# Altium integrated library microchip.IntLib: 312 symbols (part 1 of 5)
Pins are listed as number, name and electrical type; pins without a type are passive.

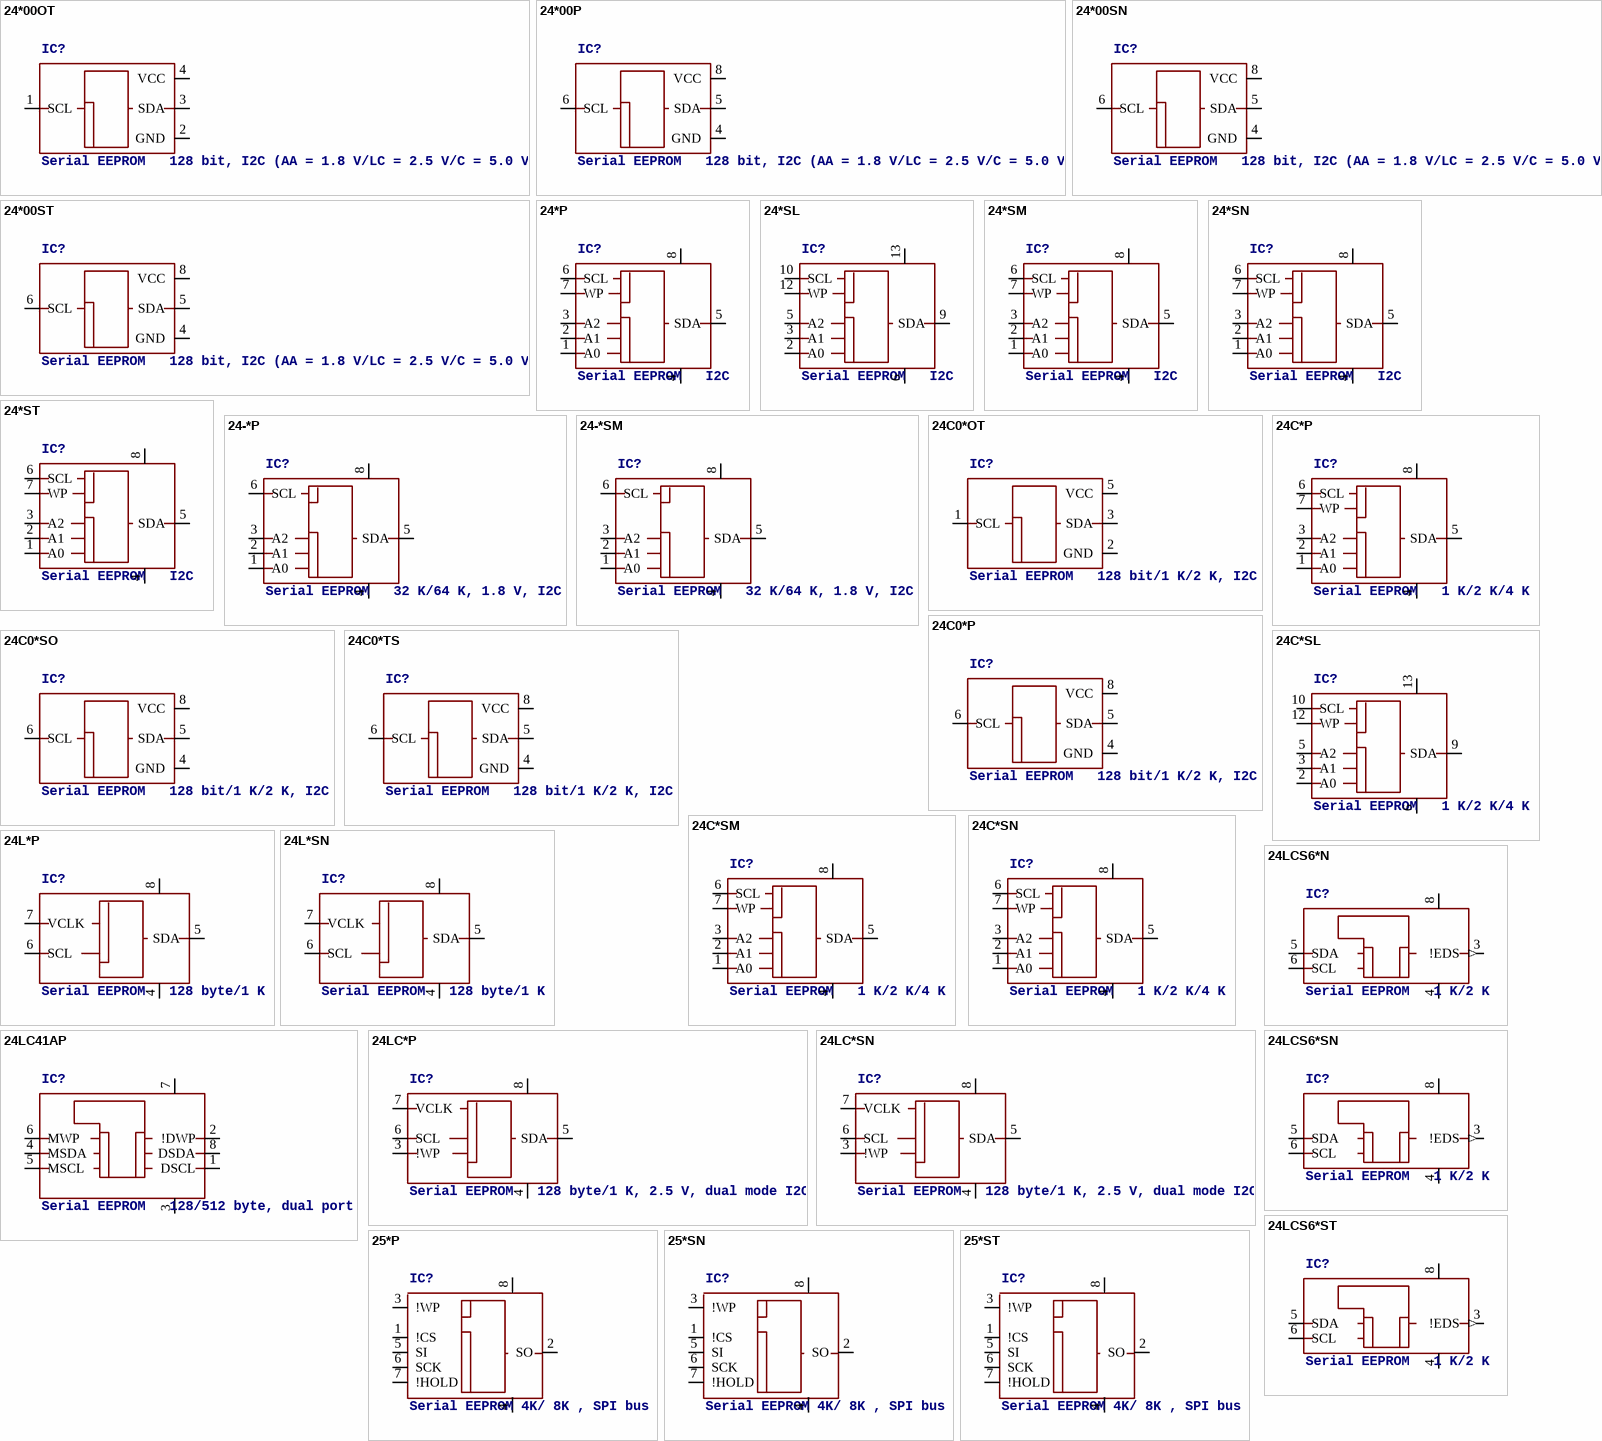
[diagram p0: symbols 24*00OT to 25*ST]

## 24*00OT
designator IC?, comment Serial EEPROM   128 bit, I2C (AA = 1.8 V/LC = 2.5 V/C = 5.0 V)
MPN: 24AA00T-I/OTG; MPN: 24C00T-I/OT; MPN: 24LC00T-I/OT; MF: MICROCHIP; OC_FARNELL: 1331264; OC_NEWARK: 89H3038; OC_FARNELL: 1818713; OC_NEWARK: 92C6937; OC_FARNELL: 9757864; OC_NEWARK: 62K0574
footprint SOT23-5L
pins: 1 SCL, 2 GND (power), 3 SDA, 4 VCC (power)

## 24*00P
designator IC?, comment Serial EEPROM   128 bit, I2C (AA = 1.8 V/LC = 2.5 V/C = 5.0 V)
MPN: 24AA00-I/P; MPN: 24C00/P; MPN: 24LC00/P; MF: MICROCHIP; OC_FARNELL: 1331262; OC_NEWARK: 68K7385; OC_FARNELL: unknown; OC_NEWARK: 96K4058; OC_FARNELL: 9757856; OC_NEWARK: 96K4068
footprint DIL8
pins: 4 GND (power), 5 SDA, 6 SCL, 8 VCC (power)

## 24*00SN
designator IC?, comment Serial EEPROM   128 bit, I2C (AA = 1.8 V/LC = 2.5 V/C = 5.0 V)
MPN: 24AA00-I/SN; MPN: 24C00/SN; MPN: 24LC00/SN; MF: MICROCHIP; OC_FARNELL: 1331263; OC_NEWARK: 92C6779; OC_FARNELL: unknown; OC_NEWARK: 96K4059; OC_FARNELL: 1137303; OC_NEWARK: 69K7667
footprint SO-08
pins: 4 GND (power), 5 SDA, 6 SCL, 8 VCC (power)

## 24*00ST
designator IC?, comment Serial EEPROM   128 bit, I2C (AA = 1.8 V/LC = 2.5 V/C = 5.0 V)
MPN: 24AA00-I/STG; MPN: 24C00-I/ST; MPN: 24LC00-I/ST; MF: MICROCHIP; OC_FARNELL: unknown; OC_NEWARK: 89H3037; OC_NEWARK: 92C6932; OC_NEWARK: 96K4067
footprint TSSOP8
pins: 4 GND (power), 5 SDA, 6 SCL, 8 VCC (power)

## 24*P
designator IC?, comment Serial EEPROM   I2C
MPN: 24AA01-I/P; MPN: 24AA02-I/P; MPN: 24AA04-I/P; MPN: 24AA08-I/P; MPN: 24AA128-I/P; MPN: 24AA16-I/P; MPN: 24AA256-I/P; MPN: 24AA32A-I/P; MPN: 24AA64-I/P; MPN: M24C01-WBN6P; MPN: 24C02C-I/P; MPN: FM24C04A-P; MPN: AT24C08B-PU; MPN: AT24C16B-PU; MPN: AT24C32C-PU; MPN: FM24C64-P; MPN: 24LC01BH-I/P; MPN: 24LC024-I/P; MPN: 24LC025-I/P; MPN: 24LC04B-I/P; MPN: 24LC08B/P; MPN: 24LC128-I/P; MPN: 24LC16B/P; MPN: 24LC256-E/P; MPN: 24LC32A/P; MPN: 24LC64-I/P; MPN: 24LCS52-I/PG; MF: MICROCHIP; MF: RAMTRON INTERNATIONAL CORP; OC_FARNELL: 1331266; OC_NEWARK: 35M0692; OC_FARNELL: 1331271; OC_NEWARK: 95M2072; OC_FARNELL: 1331275; OC_NEWARK: 35M0696; OC_FARNELL: 1331281; OC_NEWARK: 92C6825; OC_FARNELL: unknown; OC_NEWARK: 92C6840; OC_FARNELL: 1331287; OC_NEWARK: 35M0705; OC_FARNELL: 1331294; OC_NEWARK: 92C6872; OC_FARNELL: 1331297; OC_NEWARK: 92C6885; OC_FARNELL: 1331303; OC_NEWARK: 92C6909; OC_FARNELL: 9882782; OC_NEWARK: 24M5067; OC_FARNELL: 1755843; OC_NEWARK: 96K4062; OC_FARNELL: 1094258; OC_NEWARK: 97H6447; OC_FARNELL: 1362644; OC_NEWARK: 50M3317; OC_FARNELL: 1362650; OC_NEWARK: 50M3323; OC_FARNELL: 1362652; OC_NEWARK: 50M3325; OC_FARNELL: 1362657; OC_NEWARK: 97H6452; OC_NEWARK: unknown; OC_FARNELL: 1200025; OC_NEWARK: 77M3542; OC_FARNELL: 1331317; OC_NEWARK: 35M0731; OC_NEWARK: 92C7098; OC_FARNELL: 1196811; OC_NEWARK: 62K0576; OC_FARNELL: 1084245; OC_NEWARK: 96K4073; OC_FARNELL: 9757929; OC_NEWARK: 12C2007; OC_FARNELL: 1200026; OC_NEWARK: 69K7671; OC_FARNELL: 9757970; OC_NEWARK: 92C7169; OC_FARNELL: 1084246; OC_NEWARK: 75K1884; OC_FARNELL: 9758054; OC_NEWARK: 62K0584; OC_NEWARK: 89H3098
footprint DIL8
pins: 1 A0, 2 A1, 3 A2, 4 GND (power), 5 SDA, 6 SCL, 7 WP, 8 VCC (power)

## 24*SL
designator IC?, comment Serial EEPROM   I2C
OC_FARNELL: unknown; OC_NEWARK: unknown
footprint SO-14
pins: 2 A0, 3 A1, 5 A2, 6 GND (power), 9 SDA, 10 SCL, 12 WP, 13 VCC (power)

## 24*SM
designator IC?, comment Serial EEPROM   I2C
MPN: 24AA01-I/SN; MPN: 24AA02-I/SN; MPN: 24AA04-I/SN; MPN: 24AA08-I/SN; MPN: 24AA128-I/MS; MPN: 24AA16-I/SN; MPN: 24AA32A-I/SN; MPN: 24C01C/SN; MPN: 24C02C/SN; MPN: M24C04-WMN6P; MPN: AT24C08BN-SH-B; MPN: IS24C32A-2GLI; MPN: FM24C64-S; MPN: FM24CL04-S; MPN: 24LC08BT-I/SN; MPN: 24LC128-I/SM; MPN: 24LC16B/SN; MPN: 24LC32A/SM; MPN: 24LC64T-I/SN; MF: MICROCHIP; MF: RAMTRON INTERNATIONAL CORP; OC_FARNELL: 1331268; OC_NEWARK: 92C6793; OC_FARNELL: 1331272; OC_NEWARK: 92C6803; OC_FARNELL: 1331276; OC_NEWARK: 92C6814; OC_FARNELL: 1331282; OC_NEWARK: 92C6826; OC_FARNELL: 1331285; OC_NEWARK: 92C6839; OC_FARNELL: 1331289; OC_NEWARK: 96K4056; OC_FARNELL: 1617659; OC_NEWARK: 83C5815; OC_FARNELL: 1362638; OC_NEWARK: 96K4061; OC_FARNELL: 1084339; OC_NEWARK: 96K4065; OC_FARNELL: 9882812; OC_NEWARK: 83K1376; OC_FARNELL: 1362645; OC_NEWARK: 50M3318; OC_FARNELL: 1718129; OC_NEWARK: 43M4588; OC_FARNELL: 9882685; OC_NEWARK: 98H0189; OC_FARNELL: 1607928; OC_NEWARK: 97H6443; OC_FARNELL: 1818714; OC_NEWARK: 92C7127; OC_FARNELL: 9757937; OC_NEWARK: 92C7134; OC_FARNELL: 9757945; OC_NEWARK: 12C2012; OC_FARNELL: 1212670; OC_NEWARK: 96K4080; OC_FARNELL: 9758070; OC_NEWARK: 12C2021
footprint SO-08M
pins: 1 A0, 2 A1, 3 A2, 4 GND (power), 5 SDA, 6 SCL, 7 WP, 8 VCC (power)

## 24*SN
designator IC?, comment Serial EEPROM   I2C
MPN: 24AA01/SN; MPN: 24AA02/SN; MPN: 24AA04/SN; MPN: 24AA08-I/SN; MPN: 24AA128-I/SN; MPN: 24AA16-I/SN; MPN: 24AA256T-I/SM; MPN: 24AA32A-I/SN; MPN: 24AA64-I/SN; MPN: AT24C08BN-SH-B; MPN: AT24C16BN-SH-B; MPN: IS24C32A-2GLI; MPN: FM24CL04-G; MPN: 24LC024/SN; MPN: 24LC025/SN; MPN: 24LC08B/SN; MPN: 24LC128-I/SNG; MPN: 24LC16B/SN; MPN: 24LC256-I/SN; MPN: 24LC32A/SN; MPN: 24LC64-I/SN; MPN: 24LCS52-I/SN; MF: MICROCHIP; MF: RAMTRON INTERNATIONAL CORP; OC_FARNELL: 1331268; OC_NEWARK: 89C9792; OC_FARNELL: 1331272; OC_NEWARK: 89C9793; OC_FARNELL: 1331276; OC_NEWARK: 92C6818; OC_FARNELL: 1579568; OC_NEWARK: 92C6826; OC_FARNELL: unknown; OC_NEWARK: 92C6842; OC_FARNELL: 1331289; OC_NEWARK: 96K4056; OC_FARNELL: 1579570; OC_NEWARK: 08N6838; OC_FARNELL: 1617659; OC_NEWARK: 83C5815; OC_FARNELL: 1331304; OC_NEWARK: 85C2288; OC_FARNELL: 1362645; OC_NEWARK: 50M3318; OC_FARNELL: 1362651; OC_NEWARK: 50M3324; OC_FARNELL: 1224413; OC_NEWARK: 43M4588; OC_FARNELL: 1607928; OC_NEWARK: 10J0444; OC_FARNELL: 1659744; OC_NEWARK: 92C7092; OC_NEWARK: 92C7103; OC_FARNELL: 1212669; OC_NEWARK: 12C2005; OC_FARNELL: 9757937; OC_NEWARK: 30H1511; OC_FARNELL: 9757945; OC_NEWARK: 12C2012; OC_FARNELL: 9757996; OC_NEWARK: 27C9144; OC_FARNELL: 9758003; OC_NEWARK: 33C2976; OC_FARNELL: 9758070; OC_NEWARK: 12C2020; OC_FARNELL: 1816066; OC_NEWARK: 92C7032
footprint SO-08
pins: 1 A0, 2 A1, 3 A2, 4 GND (power), 5 SDA, 6 SCL, 7 WP, 8 VCC (power)

## 24*ST
designator IC?, comment Serial EEPROM   I2C
MPN: 24AA128-I/ST; MPN: 25AA640A-I/ST; MPN: CAT24C64YI-GT3; MPN: 24LC024H-I/ST; MPN: 24LC025-I/ST; MPN: 24LC128-I/ST; MPN: 24LC64X-I/ST; MPN: 24LCS52T/ST; MF: MICROCHIP; OC_FARNELL: unknown; OC_NEWARK: 92C6843; OC_FARNELL: 1818513; OC_NEWARK: 27M1300; OC_FARNELL: 1718133; OC_NEWARK: 08R5418; OC_FARNELL: 1659745; OC_NEWARK: 77M3584; OC_NEWARK: 92C7100; OC_FARNELL: 1296573; OC_NEWARK: 62K0578; OC_FARNELL: 1296582; OC_NEWARK: 96K4081; OC_NEWARK: 92C7040
footprint TSSOP8
pins: 1 A0, 2 A1, 3 A2, 4 GND (power), 5 SDA, 6 SCL, 7 WP, 8 VCC (power)

## 24-*P
designator IC?, comment Serial EEPROM   32 K/64 K, 1.8 V, I2C
MPN: 24AA65/P; MPN: AT24C32C-PU; MPN: 24C65/P; MPN: 24LC32A/P; MPN: 24LC65/P; MF: MICROCHIP; OC_FARNELL: 1331306; OC_NEWARK: 35M0721; OC_FARNELL: 1362652; OC_NEWARK: 50M3325; OC_FARNELL: 9757821; OC_NEWARK: 89C9798; OC_FARNELL: unknown; OC_NEWARK: unknown; OC_FARNELL: 1084246; OC_NEWARK: 75K1884; OC_FARNELL: 9758089; OC_NEWARK: 88K1357
footprint DIL8
pins: 1 A0, 2 A1, 3 A2, 4 GND (power), 5 SDA, 6 SCL, 8 VCC (power)

## 24-*SM
designator IC?, comment Serial EEPROM   32 K/64 K, 1.8 V, I2C
MPN: 24AA65/SM; MPN: M24C32-WMN6P; MPN: 24C65/SM; MPN: 24LC32A/SM; MPN: 24LC65/SM; MF: MICROCHIP; OC_FARNELL: 1331307; OC_NEWARK: 92C6926; OC_FARNELL: 1362654; OC_NEWARK: 56P9110; OC_FARNELL: 1467721; OC_NEWARK: 96K4066; OC_FARNELL: unknown; OC_NEWARK: unknown; OC_FARNELL: 1212670; OC_NEWARK: 96K4080; OC_FARNELL: 9758097; OC_NEWARK: 96K4082
footprint SO-08M
pins: 1 A0, 2 A1, 3 A2, 4 GND (power), 5 SDA, 6 SCL, 8 VCC (power)

## 24C0*OT
designator IC?, comment Serial EEPROM   128 bit/1 K/2 K, I2C
MPN: 24C00T-I/OT; MF: MICROCHIP; OC_FARNELL: 1818713; OC_NEWARK: 92C6937
footprint SOT23-5L
pins: 1 SCL, 2 GND (power), 3 SDA, 5 VCC (power)

## 24C0*P
designator IC?, comment Serial EEPROM   128 bit/1 K/2 K, I2C
MPN: 24C00/P; MPN: AT24C01B-PU; MPN: AT24C02B-PU; MF: MICROCHIP; OC_FARNELL: unknown; OC_NEWARK: 96K4058; OC_FARNELL: 1362637; OC_NEWARK: 50M3312; OC_FARNELL: 1362639; OC_NEWARK: 50M3314
footprint DIL8
pins: 4 GND (power), 5 SDA, 6 SCL, 8 VCC (power)

## 24C0*SO
designator IC?, comment Serial EEPROM   128 bit/1 K/2 K, I2C
MPN: 24C00/SN; MPN: AT24C01BN-SH-B; MPN: IS24C02B-2GLI; MF: MICROCHIP; OC_FARNELL: 1847799; OC_NEWARK: 96K4059; OC_FARNELL: 1362638; OC_NEWARK: 50M3313; OC_FARNELL: 1455010; OC_NEWARK: 43M4517
footprint SO-08W
pins: 4 GND (power), 5 SDA, 6 SCL, 8 VCC (power)

## 24C0*TS
designator IC?, comment Serial EEPROM   128 bit/1 K/2 K, I2C
MPN: 24C00T-E/ST; MF: MICROCHIP; OC_FARNELL: unknown; OC_NEWARK: 68H9684
footprint TSSOP8
pins: 4 GND (power), 5 SDA, 6 SCL, 8 VCC (power)

## 24C*P
designator IC?, comment Serial EEPROM   1 K/2 K/4 K
MPN: 24C01C-I/P; MPN: M24C01-WBN6P; MPN: 24C01C/P; MPN: M24C02-WBN6P; MPN: 24C02C/P; MPN: M24C04-WBN6P; MPN: AT24C04B-PU; MPN: CAT24C04LI-G; MF: MICROCHIP; MF: Arrow Electronics; OC_FARNELL: 1847800; OC_NEWARK: 92C6948; OC_FARNELL: 9882782; OC_NEWARK: 93K7306; OC_FARNELL: 3662901; OC_NEWARK: 96K4060; OC_FARNELL: unknown; OC_NEWARK: unknown; OC_FARNELL: 1094256; OC_NEWARK: 11M0888; OC_FARNELL: 1296567; OC_NEWARK: 96K4064; OC_FARNELL: 1094258; OC_NEWARK: 02M5802; OC_FARNELL: 1362642; OC_NEWARK: 50M3315; OC_FARNELL: 1718374; OC_NEWARK: 73P4460
footprint DIL8
pins: 1 A0, 2 A1, 3 A2, 4 GND (power), 5 SDA, 6 SCL, 7 WP, 8 VCC (power)

## 24C*SL
designator IC?, comment Serial EEPROM   1 K/2 K/4 K
OC_FARNELL: unknown; OC_NEWARK: unknown
footprint SO-14
pins: 2 A0, 3 A1, 5 A2, 6 GND (power), 9 SDA, 10 SCL, 12 WP, 13 VCC (power)

## 24C*SM
designator IC?, comment Serial EEPROM   1 K/2 K/4 K
MPN: M24C01-WMN6P; MPN: AT24C01BN-SH-B; MPN: 24C02C-I/SN; MPN: M24C02-WMN6P; MPN: CAT24C04WI-G; MPN: AT24C04BN-SH-B; MF: MICROCHIP; OC_FARNELL: 9882790; OC_NEWARK: 24M5068; OC_FARNELL: 1362638; OC_NEWARK: 50M3313; OC_FARNELL: 1084339; OC_NEWARK: 96K4063; OC_FARNELL: 9882804; OC_NEWARK: 10M9771; OC_FARNELL: 1631136; OC_NEWARK: 06R0507; OC_FARNELL: 1362643; OC_NEWARK: 50M3316
footprint SO-08M
pins: 1 A0, 2 A1, 3 A2, 4 GND (power), 5 SDA, 6 SCL, 7 WP, 8 VCC (power)

## 24C*SN
designator IC?, comment Serial EEPROM   1 K/2 K/4 K
MPN: CAT24C01WI-GT3; MPN: AT24C01BN-SH-B; MPN: 24C01C/SN; MPN: 24C02C/SN; MPN: M24C04-WMN6P; MF: MICROCHIP; OC_FARNELL: 1718117; OC_NEWARK: 06R0487; OC_FARNELL: 1362638; OC_NEWARK: 50M3313; OC_FARNELL: unknown; OC_NEWARK: 96K4061; OC_NEWARK: unknown; OC_FARNELL: 1607552; OC_NEWARK: 96K4065; OC_FARNELL: 9882812; OC_NEWARK: 83K1376
footprint SO-08
pins: 1 A0, 2 A1, 3 A2, 4 GND (power), 5 SDA, 6 SCL, 7 WP, 8 VCC (power)

## 24L*P
designator IC?, comment Serial EEPROM   128 byte/1 K
MPN: 24LC21/P; MPN: 24LC21A-I/P; MF: MICROCHIP; OC_FARNELL: 1818716; OC_NEWARK: 92C7157; OC_FARNELL: unknown; OC_NEWARK: 92C7160
footprint DIL8
pins: 4 GND (power), 5 SDA, 6 SCL, 7 VCLK, 8 VCC (power)

## 24L*SN
designator IC?, comment Serial EEPROM   128 byte/1 K
MPN: 24LC21/SN; MPN: 24LC21A/SN; MF: MICROCHIP; OC_FARNELL: 1816067; OC_NEWARK: 92C7159; OC_FARNELL: unknown; OC_NEWARK: 89C9809
footprint SO-08
pins: 4 GND (power), 5 SDA, 6 SCL, 7 VCLK, 8 VCC (power)

## 24LC41AP
designator IC?, comment Serial EEPROM   128/512 byte, dual port
OC_FARNELL: unknown; OC_NEWARK: unknown
footprint DIL8
pins: 1 DSCL, 2 !DWP, 3 GND (power), 4 MSDA, 5 MSCL, 6 MWP, 7 VCC (power), 8 DSDA

## 24LC*P
designator IC?, comment Serial EEPROM   128 byte/1 K, 2.5 V, dual mode I2C
MPN: 24LCS21A/P; MF: MICROCHIP; OC_FARNELL: unknown; OC_NEWARK: 92C7023
footprint DIL8
pins: 3 !WP, 4 GND (power), 5 SDA, 6 SCL, 7 VCLK, 8 VCC (power)

## 24LC*SN
designator IC?, comment Serial EEPROM   128 byte/1 K, 2.5 V, dual mode I2C
MPN: 24LCS21A/SN; MF: MICROCHIP; OC_FARNELL: 1847803; OC_NEWARK: 92C7025
footprint SO-08
pins: 3 !WP, 4 GND (power), 5 SDA, 6 SCL, 7 VCLK, 8 VCC (power)

## 24LCS6*N
designator IC?, comment Serial EEPROM   1 K/2 K
OC_FARNELL: unknown; OC_NEWARK: unknown
footprint DIL8
pins: 3 !EDS (out), 4 GND (power), 5 SDA, 6 SCL, 8 VCC (power)

## 24LCS6*SN
designator IC?, comment Serial EEPROM   1 K/2 K
OC_FARNELL: unknown; OC_NEWARK: unknown
footprint SO-08
pins: 3 !EDS (out), 4 GND (power), 5 SDA, 6 SCL, 8 VCC (power)

## 24LCS6*ST
designator IC?, comment Serial EEPROM   1 K/2 K
OC_FARNELL: unknown; OC_NEWARK: unknown
footprint TSSOP8
pins: 3 !EDS (out), 4 GND (power), 5 SDA, 6 SCL, 8 VCC (power)

## 25*P
designator IC?, comment Serial EEPROM 4K/ 8K , SPI bus
MPN: 25AA040-I/P; MPN: 25AA080/P; MPN: 25C040/P; MPN: 25C080-I/P; MPN: 25LC040/P; MPN: 25LC080/P; MF: MICROCHIP; OC_FARNELL: 1331347; OC_NEWARK: 92C7334; OC_FARNELL: 1331352; OC_NEWARK: 92C7349; OC_FARNELL: 1607554; OC_NEWARK: 96K4084; OC_FARNELL: 1816073; OC_NEWARK: 92C7398; OC_FARNELL: 9758100; OC_NEWARK: 96K4091; OC_FARNELL: 1556143; OC_NEWARK: 92C7440
footprint DIL8
pins: 1 !CS, 2 SO, 3 !WP, 4 GND (power), 5 SI, 6 SCK, 7 !HOLD, 8 VCC (power)

## 25*SN
designator IC?, comment Serial EEPROM 4K/ 8K , SPI bus
MPN: 25AA080/SN; MPN: 25C080/SN; MPN: 25LC080/SN; MF: MICROCHIP; OC_FARNELL: 1816072; OC_NEWARK: 92C7351; OC_FARNELL: unknown; OC_NEWARK: 96K4086; OC_FARNELL: 1137302; OC_NEWARK: 96K4092
footprint SO-08
pins: 1 !CS, 2 SO, 3 !WP, 4 GND (power), 5 SI, 6 SCK, 7 !HOLD, 8 VCC (power)

## 25*ST
designator IC?, comment Serial EEPROM 4K/ 8K , SPI bus
MPN: 25AA040A-I/MS; MPN: 25C040T/SN; MPN: 25LC040A-I/ST; MF: MICROCHIP; OC_FARNELL: 1331345; OC_NEWARK: 35M0801; OC_FARNELL: unknown; OC_NEWARK: 30C5312; OC_FARNELL: 1815998; OC_NEWARK: 72J3684
footprint TSSOP8
pins: 1 !CS, 2 SO, 3 !WP, 4 GND (power), 5 SI, 6 SCK, 7 !HOLD, 8 VCC (power)

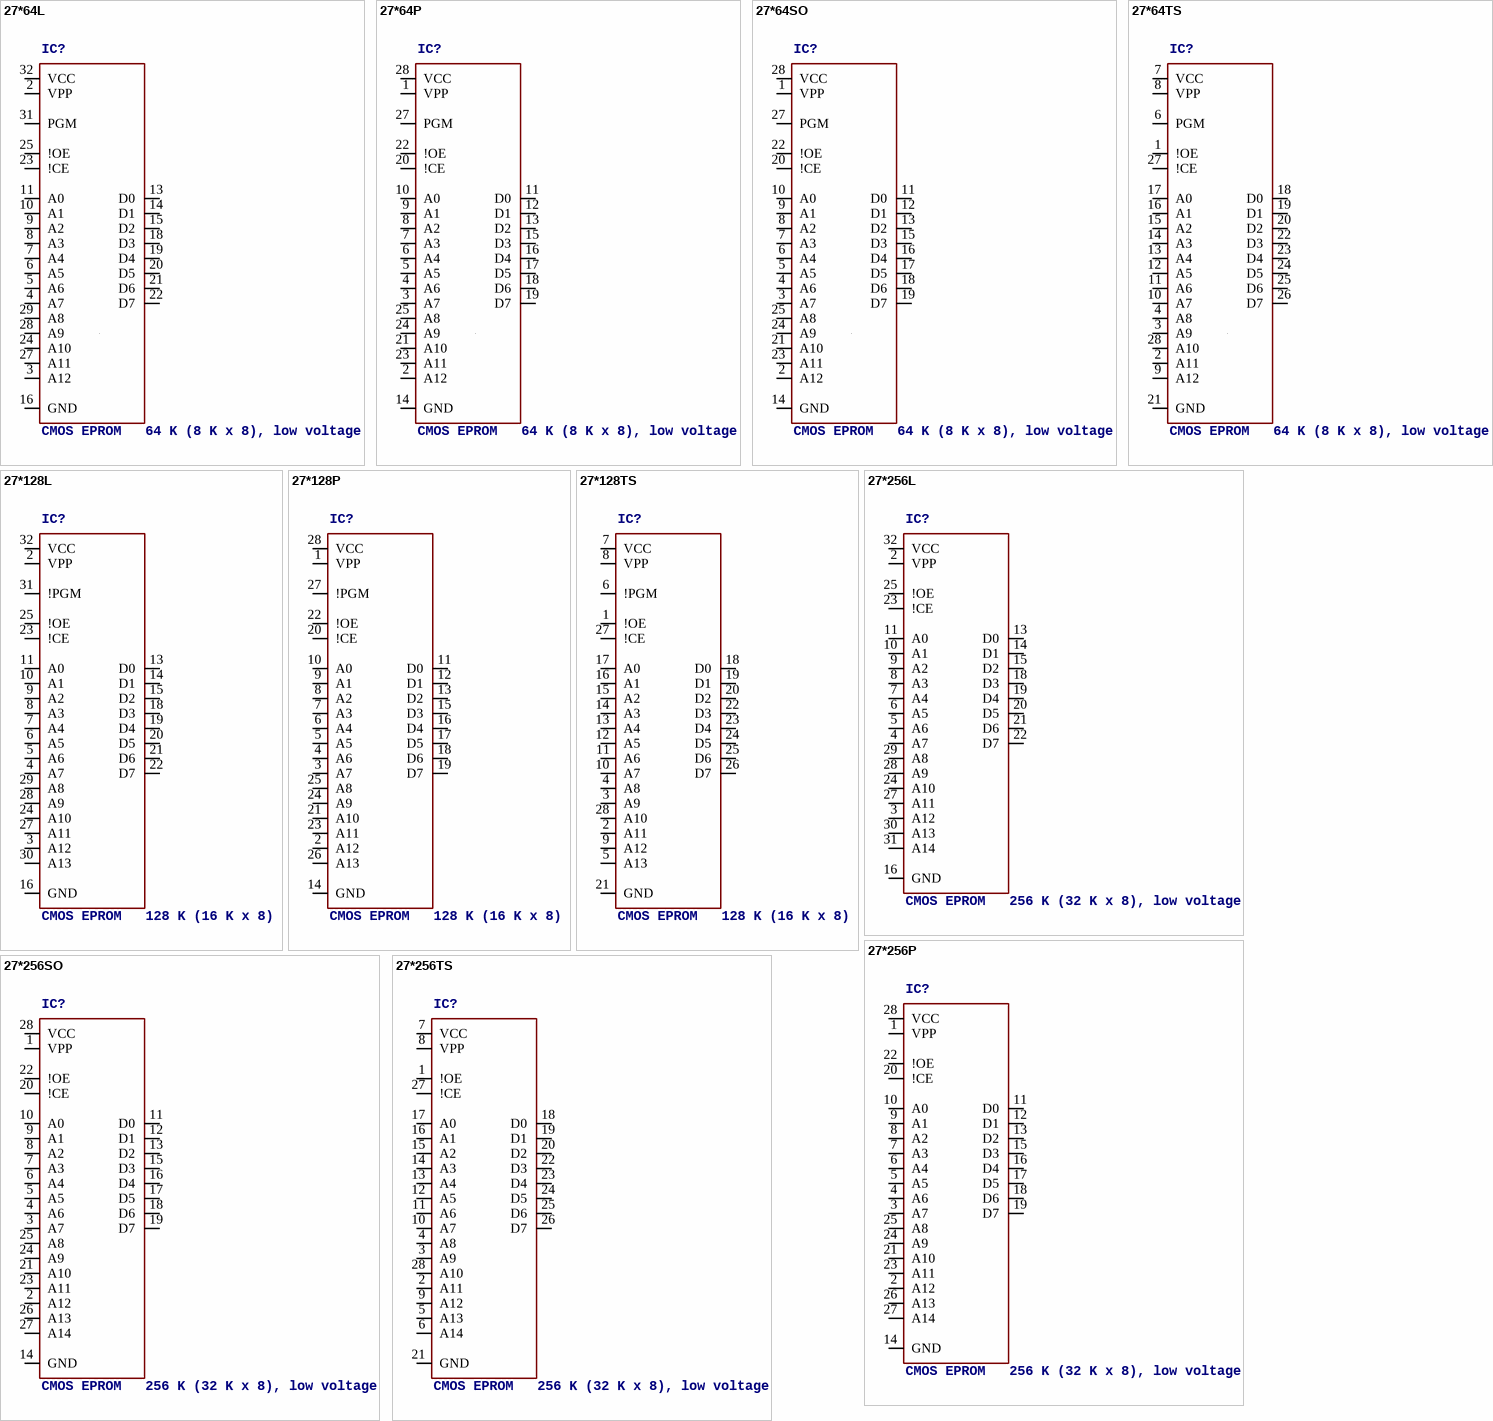
[diagram p1: symbols 27*64L to 27*256TS]

## 27*64L
designator IC?, comment CMOS EPROM   64 K (8 K x 8), low voltage
OC_FARNELL: unknown; OC_NEWARK: unknown
footprint PLCC-32
pins: 1 NC, 2 VPP, 3 A12, 4 A7, 5 A6, 6 A5, 7 A4, 8 A3, 9 A2, 10 A1, 11 A0, 13 D0 (hiz), 14 D1 (hiz), 15 D2 (hiz), 16 GND (power), 18 D3 (hiz), 19 D4 (hiz), 20 D5 (hiz), 21 D6 (hiz), 22 D7 (hiz), 23 !CE, 24 A10, 25 !OE, 27 A11, 28 A9, 29 A8, 31 PGM, 32 VCC (power)

## 27*64P
designator IC?, comment CMOS EPROM   64 K (8 K x 8), low voltage
MPN: M27C64A-10F1; MF: Arrow Electronics; OC_FARNELL: 1094265; OC_NEWARK: 93K7339; OC_FARNELL: unknown; OC_NEWARK: unknown
footprint DIL28-6
pins: 1 VPP, 2 A12, 3 A7, 4 A6, 5 A5, 6 A4, 7 A3, 8 A2, 9 A1, 10 A0, 11 D0 (hiz), 12 D1 (hiz), 13 D2 (hiz), 14 GND (power), 15 D3 (hiz), 16 D4 (hiz), 17 D5 (hiz), 18 D6 (hiz), 19 D7 (hiz), 20 !CE, 21 A10, 22 !OE, 23 A11, 24 A9, 25 A8, 26 NC, 27 PGM, 28 VCC (power)

## 27*64SO
designator IC?, comment CMOS EPROM   64 K (8 K x 8), low voltage
OC_FARNELL: unknown; OC_NEWARK: unknown
footprint SO28W
pins: 1 VPP, 2 A12, 3 A7, 4 A6, 5 A5, 6 A4, 7 A3, 8 A2, 9 A1, 10 A0, 11 D0 (hiz), 12 D1 (hiz), 13 D2 (hiz), 14 GND (power), 15 D3 (hiz), 16 D4 (hiz), 17 D5 (hiz), 18 D6 (hiz), 19 D7 (hiz), 20 !CE, 21 A10, 22 !OE, 23 A11, 24 A9, 25 A8, 26 NC, 27 PGM, 28 VCC (power)

## 27*64TS
designator IC?, comment CMOS EPROM   64 K (8 K x 8), low voltage
OC_FARNELL: unknown; OC_NEWARK: unknown
footprint TSOP28
pins: 1 !OE, 2 A11, 3 A9, 4 A8, 5 NC, 6 PGM, 7 VCC (power), 8 VPP, 9 A12, 10 A7, 11 A6, 12 A5, 13 A4, 14 A3, 15 A2, 16 A1, 17 A0, 18 D0 (hiz), 19 D1 (hiz), 20 D2 (hiz), 21 GND (power), 22 D3 (hiz), 23 D4 (hiz), 24 D5 (hiz), 25 D6 (hiz), 26 D7 (hiz), 27 !CE, 28 A10

## 27*128L
designator IC?, comment CMOS EPROM   128 K (16 K x 8)
OC_FARNELL: unknown; OC_NEWARK: unknown
footprint PLCC-32
pins: 2 VPP, 3 A12, 4 A7, 5 A6, 6 A5, 7 A4, 8 A3, 9 A2, 10 A1, 11 A0, 13 D0 (hiz), 14 D1 (hiz), 15 D2 (hiz), 16 GND (power), 18 D3 (hiz), 19 D4 (hiz), 20 D5 (hiz), 21 D6 (hiz), 22 D7 (hiz), 23 !CE, 24 A10, 25 !OE, 27 A11, 28 A9, 29 A8, 30 A13, 31 !PGM, 32 VCC (power)

## 27*128P
designator IC?, comment CMOS EPROM   128 K (16 K x 8)
OC_FARNELL: unknown; OC_NEWARK: unknown
footprint DIL28-6
pins: 1 VPP, 2 A12, 3 A7, 4 A6, 5 A5, 6 A4, 7 A3, 8 A2, 9 A1, 10 A0, 11 D0 (hiz), 12 D1 (hiz), 13 D2 (hiz), 14 GND (power), 15 D3 (hiz), 16 D4 (hiz), 17 D5 (hiz), 18 D6 (hiz), 19 D7 (hiz), 20 !CE, 21 A10, 22 !OE, 23 A11, 24 A9, 25 A8, 26 A13, 27 !PGM, 28 VCC (power)

## 27*128TS
designator IC?, comment CMOS EPROM   128 K (16 K x 8)
OC_FARNELL: unknown; OC_NEWARK: unknown
footprint TSOP28
pins: 1 !OE, 2 A11, 3 A9, 4 A8, 5 A13, 6 !PGM, 7 VCC (power), 8 VPP, 9 A12, 10 A7, 11 A6, 12 A5, 13 A4, 14 A3, 15 A2, 16 A1, 17 A0, 18 D0 (hiz), 19 D1 (hiz), 20 D2 (hiz), 21 GND (power), 22 D3 (hiz), 23 D4 (hiz), 24 D5 (hiz), 25 D6 (hiz), 26 D7 (hiz), 27 !CE, 28 A10

## 27*256L
designator IC?, comment CMOS EPROM   256 K (32 K x 8), low voltage
MPN: AT27C256R-70JU; OC_FARNELL: 1095779; OC_NEWARK: 96K6554; OC_FARNELL: unknown; OC_NEWARK: unknown
footprint PLCC-32
pins: 2 VPP, 3 A12, 4 A7, 5 A6, 6 A5, 7 A4, 8 A3, 9 A2, 10 A1, 11 A0, 13 D0 (hiz), 14 D1 (hiz), 15 D2 (hiz), 16 GND (power), 18 D3 (hiz), 19 D4 (hiz), 20 D5 (hiz), 21 D6 (hiz), 22 D7 (hiz), 23 !CE, 24 A10, 25 !OE, 27 A11, 28 A9, 29 A8, 30 A13, 31 A14, 32 VCC (power)

## 27*256P
designator IC?, comment CMOS EPROM   256 K (32 K x 8), low voltage
MPN: M27C256B15F1; MF: Arrow Electronics; OC_FARNELL: 1125431; OC_NEWARK: 93K7335; OC_FARNELL: unknown; OC_NEWARK: unknown
footprint DIL28-6
pins: 1 VPP, 2 A12, 3 A7, 4 A6, 5 A5, 6 A4, 7 A3, 8 A2, 9 A1, 10 A0, 11 D0 (hiz), 12 D1 (hiz), 13 D2 (hiz), 14 GND (power), 15 D3 (hiz), 16 D4 (hiz), 17 D5 (hiz), 18 D6 (hiz), 19 D7 (hiz), 20 !CE, 21 A10, 22 !OE, 23 A11, 24 A9, 25 A8, 26 A13, 27 A14, 28 VCC (power)

## 27*256SO
designator IC?, comment CMOS EPROM   256 K (32 K x 8), low voltage
OC_FARNELL: unknown; OC_NEWARK: unknown
footprint SO28W
pins: 1 VPP, 2 A12, 3 A7, 4 A6, 5 A5, 6 A4, 7 A3, 8 A2, 9 A1, 10 A0, 11 D0 (hiz), 12 D1 (hiz), 13 D2 (hiz), 14 GND (power), 15 D3 (hiz), 16 D4 (hiz), 17 D5 (hiz), 18 D6 (hiz), 19 D7 (hiz), 20 !CE, 21 A10, 22 !OE, 23 A11, 24 A9, 25 A8, 26 A13, 27 A14, 28 VCC (power)

## 27*256TS
designator IC?, comment CMOS EPROM   256 K (32 K x 8), low voltage
OC_FARNELL: unknown; OC_NEWARK: unknown
footprint TSOP28
pins: 1 !OE, 2 A11, 3 A9, 4 A8, 5 A13, 6 A14, 7 VCC (power), 8 VPP, 9 A12, 10 A7, 11 A6, 12 A5, 13 A4, 14 A3, 15 A2, 16 A1, 17 A0, 18 D0 (hiz), 19 D1 (hiz), 20 D2 (hiz), 21 GND (power), 22 D3 (hiz), 23 D4 (hiz), 24 D5 (hiz), 25 D6 (hiz), 26 D7 (hiz), 27 !CE, 28 A10

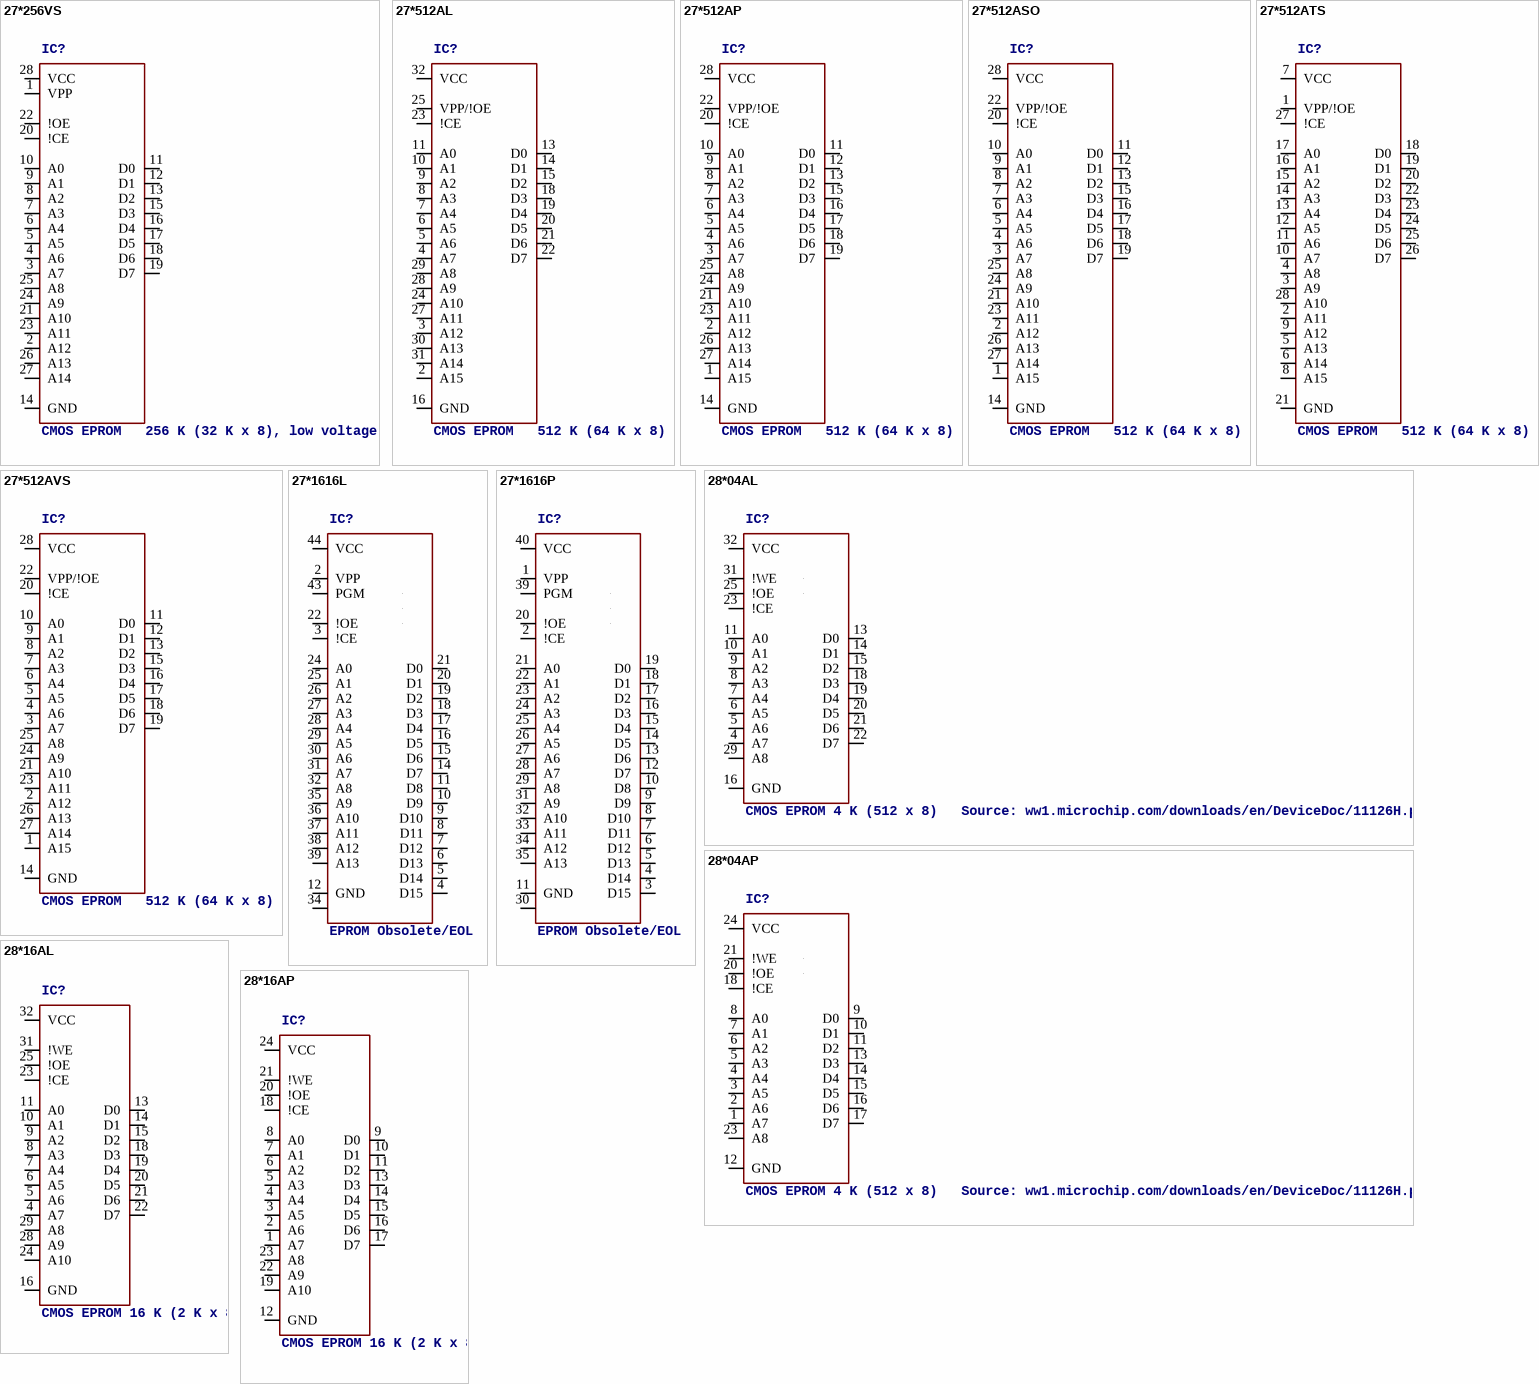
[diagram p2: symbols 27*256VS to 28*16AP]

## 27*256VS
designator IC?, comment CMOS EPROM   256 K (32 K x 8), low voltage
OC_FARNELL: unknown; OC_NEWARK: unknown
footprint VSOP28-8X13
pins: 1 VPP, 2 A12, 3 A7, 4 A6, 5 A5, 6 A4, 7 A3, 8 A2, 9 A1, 10 A0, 11 D0 (hiz), 12 D1 (hiz), 13 D2 (hiz), 14 GND (power), 15 D3 (hiz), 16 D4 (hiz), 17 D5 (hiz), 18 D6 (hiz), 19 D7 (hiz), 20 !CE, 21 A10, 22 !OE, 23 A11, 24 A9, 25 A8, 26 A13, 27 A14, 28 VCC (power)

## 27*512AL
designator IC?, comment CMOS EPROM   512 K (64 K x 8)
MPN: M27C512-90C1; OC_FARNELL: 1218315; OC_NEWARK: 24M5090
footprint PLCC-32
pins: 2 A15, 3 A12, 4 A7, 5 A6, 6 A5, 7 A4, 8 A3, 9 A2, 10 A1, 11 A0, 13 D0 (hiz), 14 D1 (hiz), 15 D2 (hiz), 16 GND (power), 18 D3 (hiz), 19 D4 (hiz), 20 D5 (hiz), 21 D6 (hiz), 22 D7 (hiz), 23 !CE, 24 A10, 25 VPP/!OE, 27 A11, 28 A9, 29 A8, 30 A13, 31 A14, 32 VCC (power)

## 27*512AP
designator IC?, comment CMOS EPROM   512 K (64 K x 8)
MPN: M27C512-90B6; OC_FARNELL: 1642690; OC_NEWARK: 20M6389
footprint DIL28-6
pins: 1 A15, 2 A12, 3 A7, 4 A6, 5 A5, 6 A4, 7 A3, 8 A2, 9 A1, 10 A0, 11 D0 (hiz), 12 D1 (hiz), 13 D2 (hiz), 14 GND (power), 15 D3 (hiz), 16 D4 (hiz), 17 D5 (hiz), 18 D6 (hiz), 19 D7 (hiz), 20 !CE, 21 A10, 22 VPP/!OE, 23 A11, 24 A9, 25 A8, 26 A13, 27 A14, 28 VCC (power)

## 27*512ASO
designator IC?, comment CMOS EPROM   512 K (64 K x 8)
OC_FARNELL: unknown; OC_NEWARK: unknown
footprint SO28W
pins: 1 A15, 2 A12, 3 A7, 4 A6, 5 A5, 6 A4, 7 A3, 8 A2, 9 A1, 10 A0, 11 D0 (hiz), 12 D1 (hiz), 13 D2 (hiz), 14 GND (power), 15 D3 (hiz), 16 D4 (hiz), 17 D5 (hiz), 18 D6 (hiz), 19 D7 (hiz), 20 !CE, 21 A10, 22 VPP/!OE, 23 A11, 24 A9, 25 A8, 26 A13, 27 A14, 28 VCC (power)

## 27*512ATS
designator IC?, comment CMOS EPROM   512 K (64 K x 8)
OC_FARNELL: unknown; OC_NEWARK: unknown
footprint TSOP28
pins: 1 VPP/!OE, 2 A11, 3 A9, 4 A8, 5 A13, 6 A14, 7 VCC (power), 8 A15, 9 A12, 10 A7, 11 A6, 12 A5, 13 A4, 14 A3, 15 A2, 16 A1, 17 A0, 18 D0 (hiz), 19 D1 (hiz), 20 D2 (hiz), 21 GND (power), 22 D3 (hiz), 23 D4 (hiz), 24 D5 (hiz), 25 D6 (hiz), 26 D7 (hiz), 27 !CE, 28 A10

## 27*512AVS
designator IC?, comment CMOS EPROM   512 K (64 K x 8)
OC_FARNELL: unknown; OC_NEWARK: unknown
footprint VSOP28-8X13
pins: 1 A15, 2 A12, 3 A7, 4 A6, 5 A5, 6 A4, 7 A3, 8 A2, 9 A1, 10 A0, 11 D0 (hiz), 12 D1 (hiz), 13 D2 (hiz), 14 GND (power), 15 D3 (hiz), 16 D4 (hiz), 17 D5 (hiz), 18 D6 (hiz), 19 D7 (hiz), 20 !CE, 21 A10, 22 VPP/!OE, 23 A11, 24 A9, 25 A8, 26 A13, 27 A14, 28 VCC (power)

## 27*1616L
designator IC?, comment EPROM Obsolete/EOL
OC_FARNELL: unknown; OC_NEWARK: unknown
footprint LCC44
pins: 2 VPP, 3 !CE, 4 D15 (hiz), 5 D14 (hiz), 6 D13 (hiz), 7 D12 (hiz), 8 D11 (hiz), 9 D10 (hiz), 10 D9 (hiz), 11 D8 (hiz), 12 GND (power), 13 NU36, 14 D7 (hiz), 15 D6 (hiz), 16 D5 (hiz), 17 D4 (hiz), 18 D3 (hiz), 19 D2 (hiz), 20 D1 (hiz), 21 D0 (hiz), 22 !OE, 23 NU37, 24 A0, 25 A1, 26 A2, 27 A3, 28 A4, 29 A5, 30 A6, 31 A7, 32 A8, 33 NU38, 34 GND@1 (power), 35 A9, 36 A10, 37 A11, 38 A12, 39 A13, 43 PGM, 44 VCC (power)

## 27*1616P
designator IC?, comment EPROM Obsolete/EOL
OC_FARNELL: unknown; OC_NEWARK: unknown
footprint DIL40
pins: 1 VPP, 2 !CE, 3 D15 (hiz), 4 D14 (hiz), 5 D13 (hiz), 6 D12 (hiz), 7 D11 (hiz), 8 D10 (hiz), 9 D9 (hiz), 10 D8 (hiz), 11 GND (power), 12 D7 (hiz), 13 D6 (hiz), 14 D5 (hiz), 15 D4 (hiz), 16 D3 (hiz), 17 D2 (hiz), 18 D1 (hiz), 19 D0 (hiz), 20 !OE, 21 A0, 22 A1, 23 A2, 24 A3, 25 A4, 26 A5, 27 A6, 28 A7, 29 A8, 30 GND@1 (power), 31 A9, 32 A10, 33 A11, 34 A12, 35 A13, 36 NU36, 37 NU37, 38 NU38, 39 PGM, 40 VCC (power)

## 28*04AL
designator IC?, comment CMOS EPROM 4 K (512 x 8)   Source: ww1.microchip.com/downloads/en/DeviceDoc/11126H.pdf
OC_FARNELL: unknown; OC_NEWARK: unknown
footprint PLCC-32
pins: 1 NC19, 4 A7, 5 A6, 6 A5, 7 A4, 8 A3, 9 A2, 10 A1, 11 A0, 13 D0 (hiz), 14 D1 (hiz), 15 D2 (hiz), 16 GND (power), 17 NC22, 18 D3 (hiz), 19 D4 (hiz), 20 D5 (hiz), 21 D6 (hiz), 22 D7 (hiz), 23 !CE, 25 !OE, 29 A8, 31 !WE, 32 VCC (power)

## 28*04AP
designator IC?, comment CMOS EPROM 4 K (512 x 8)   Source: ww1.microchip.com/downloads/en/DeviceDoc/11126H.pdf
OC_FARNELL: unknown; OC_NEWARK: unknown
footprint DIL24-6
pins: 1 A7, 2 A6, 3 A5, 4 A4, 5 A3, 6 A2, 7 A1, 8 A0, 9 D0 (hiz), 10 D1 (hiz), 11 D2 (hiz), 12 GND (power), 13 D3 (hiz), 14 D4 (hiz), 15 D5 (hiz), 16 D6 (hiz), 17 D7 (hiz), 18 !CE, 19 NC19, 20 !OE, 21 !WE, 22 NC22, 23 A8, 24 VCC (power)

## 28*16AL
designator IC?, comment CMOS EPROM 16 K (2 K x 8)   Source: ww1.microchip.com/downloads/en/DeviceDoc/11125J.pdf
MPN: CAT28C16AGI-12; OC_FARNELL: 1718288; OC_NEWARK: 06R0639
footprint PLCC-32
pins: 4 A7, 5 A6, 6 A5, 7 A4, 8 A3, 9 A2, 10 A1, 11 A0, 13 D0 (hiz), 14 D1 (hiz), 15 D2 (hiz), 16 GND (power), 18 D3 (hiz), 19 D4 (hiz), 20 D5 (hiz), 21 D6 (hiz), 22 D7 (hiz), 23 !CE, 24 A10, 25 !OE, 28 A9, 29 A8, 31 !WE, 32 VCC (power)

## 28*16AP
designator IC?, comment CMOS EPROM 16 K (2 K x 8)   Source: ww1.microchip.com/downloads/en/DeviceDoc/11125J.pdf
MPN: CAT28C16ALI-12; OC_FARNELL: 1718292; OC_NEWARK: 06R0648
footprint DIL24-6
pins: 1 A7, 2 A6, 3 A5, 4 A4, 5 A3, 6 A2, 7 A1, 8 A0, 9 D0 (hiz), 10 D1 (hiz), 11 D2 (hiz), 12 GND (power), 13 D3 (hiz), 14 D4 (hiz), 15 D5 (hiz), 16 D6 (hiz), 17 D7 (hiz), 18 !CE, 19 A10, 20 !OE, 21 !WE, 22 A9, 23 A8, 24 VCC (power)

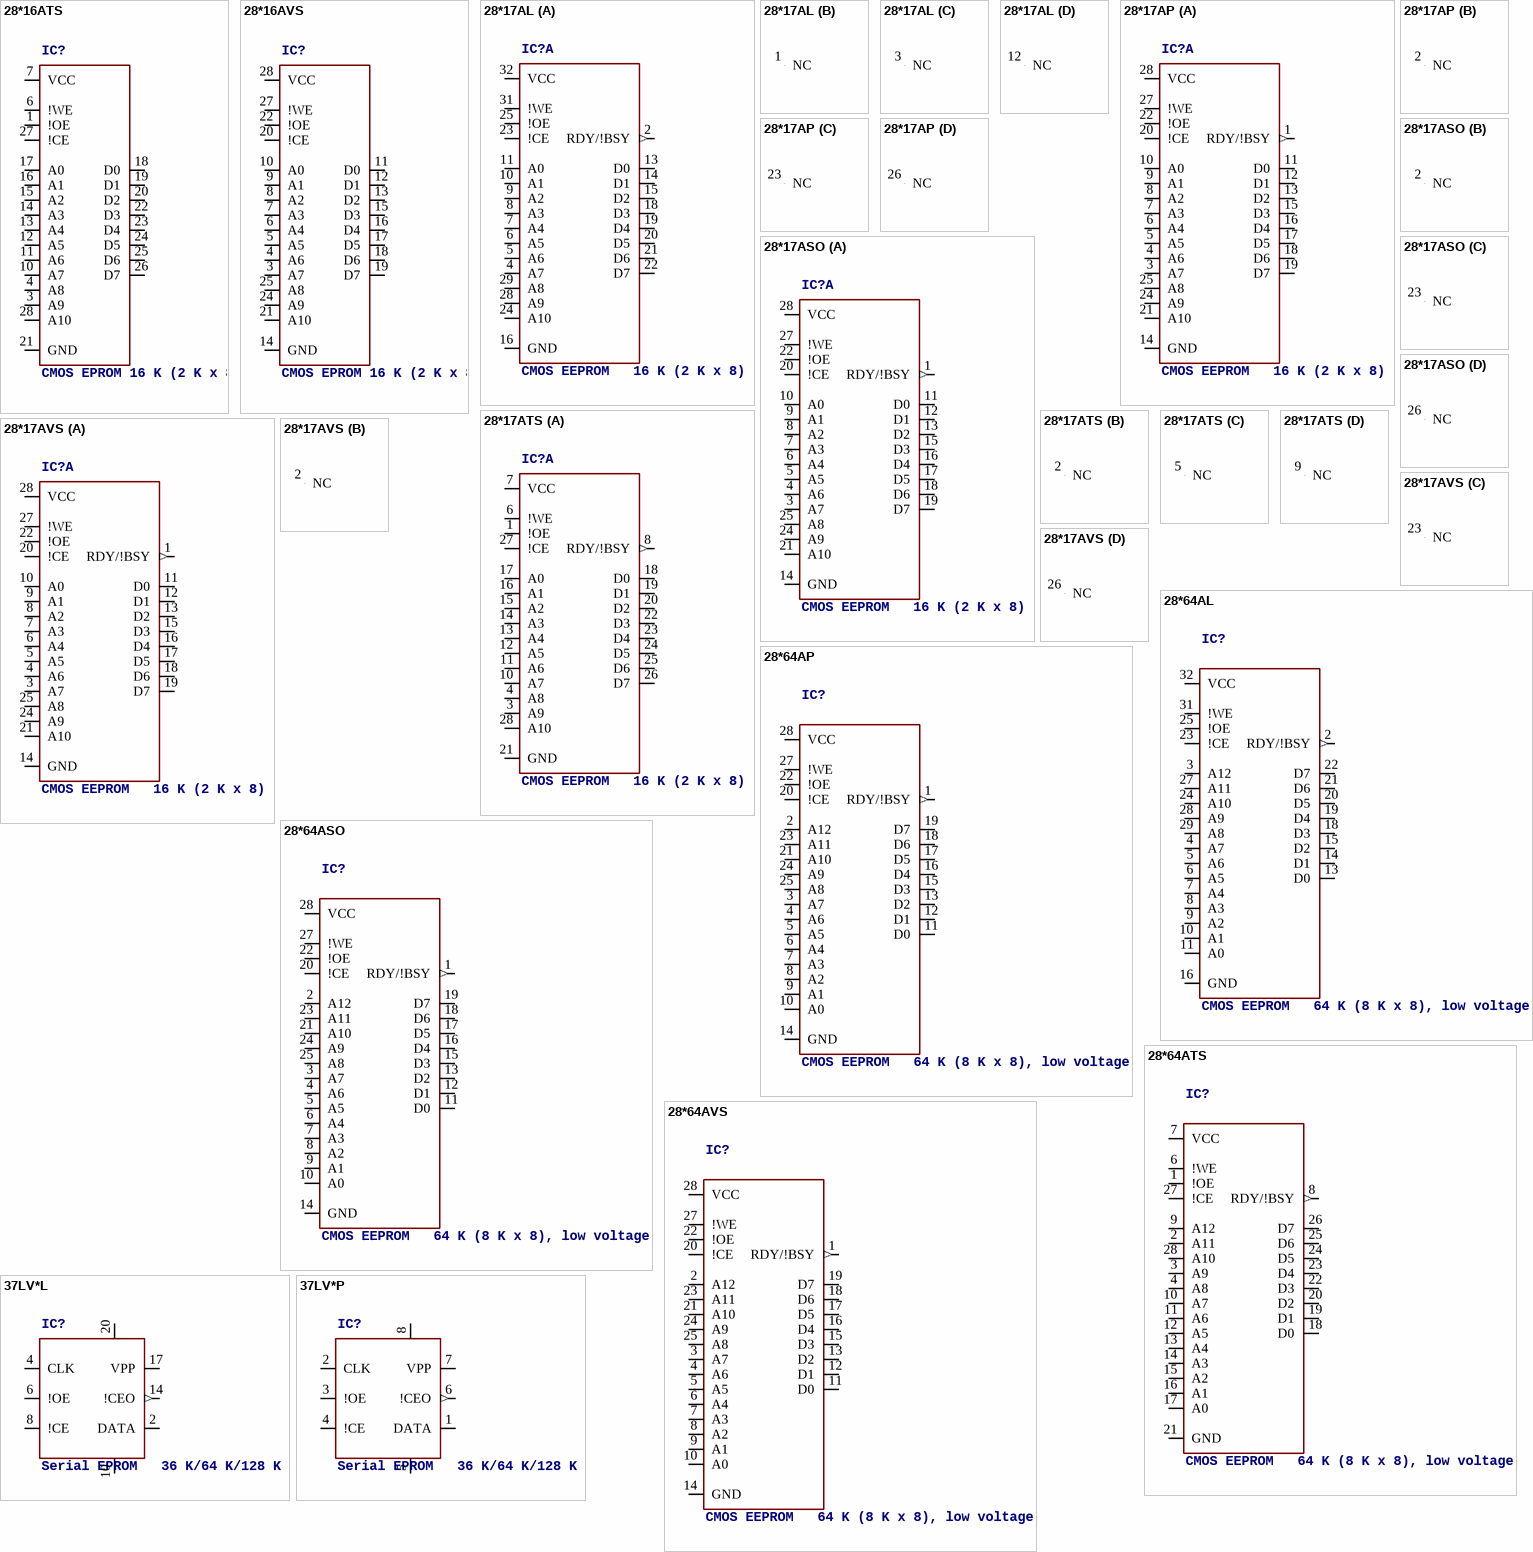
[diagram p3: symbols 28*16ATS to 37LV*P]

## 28*16ATS
designator IC?, comment CMOS EPROM 16 K (2 K x 8)   Source: ww1.microchip.com/downloads/en/DeviceDoc/11125J.pdf
OC_FARNELL: unknown; OC_NEWARK: unknown
footprint TSOP28
pins: 1 !OE, 3 A9, 4 A8, 6 !WE, 7 VCC (power), 10 A7, 11 A6, 12 A5, 13 A4, 14 A3, 15 A2, 16 A1, 17 A0, 18 D0 (hiz), 19 D1 (hiz), 20 D2 (hiz), 21 GND (power), 22 D3 (hiz), 23 D4 (hiz), 24 D5 (hiz), 25 D6 (hiz), 26 D7 (hiz), 27 !CE, 28 A10

## 28*16AVS
designator IC?, comment CMOS EPROM 16 K (2 K x 8)   Source: ww1.microchip.com/downloads/en/DeviceDoc/11125J.pdf
OC_FARNELL: 1718287; OC_NEWARK: unknown
footprint VSOP28-8X13
pins: 3 A7, 4 A6, 5 A5, 6 A4, 7 A3, 8 A2, 9 A1, 10 A0, 11 D0 (hiz), 12 D1 (hiz), 13 D2 (hiz), 14 GND (power), 15 D3 (hiz), 16 D4 (hiz), 17 D5 (hiz), 18 D6 (hiz), 19 D7 (hiz), 20 !CE, 21 A10, 22 !OE, 24 A9, 25 A8, 27 !WE, 28 VCC (power)

## 28*17AL
designator IC?, comment CMOS EEPROM   16 K (2 K x 8)
OC_FARNELL: unknown; OC_NEWARK: unknown
footprint PLCC-32
part A pins: 2 RDY/!BSY (out), 4 A7, 5 A6, 6 A5, 7 A4, 8 A3, 9 A2, 10 A1, 11 A0, 13 D0 (hiz), 14 D1 (hiz), 15 D2 (hiz), 16 GND (power), 18 D3 (hiz), 19 D4 (hiz), 20 D5 (hiz), 21 D6 (hiz), 22 D7 (hiz), 23 !CE, 24 A10, 25 !OE, 28 A9, 29 A8, 31 !WE, 32 VCC (power)
part B pins: 1 NC
part C pins: 3 NC
part D pins: 12 NC

## 28*17AP
designator IC?, comment CMOS EEPROM   16 K (2 K x 8)
MPN: CAT28C17ALI20; OC_FARNELL: unknown; OC_NEWARK: 71R7405
footprint DIL28-6
part A pins: 1 RDY/!BSY (out), 3 A7, 4 A6, 5 A5, 6 A4, 7 A3, 8 A2, 9 A1, 10 A0, 11 D0 (hiz), 12 D1 (hiz), 13 D2 (hiz), 14 GND (power), 15 D3 (hiz), 16 D4 (hiz), 17 D5 (hiz), 18 D6 (hiz), 19 D7 (hiz), 20 !CE, 21 A10, 22 !OE, 24 A9, 25 A8, 27 !WE, 28 VCC (power)
part B pins: 2 NC
part C pins: 23 NC
part D pins: 26 NC

## 28*17ASO
designator IC?, comment CMOS EEPROM   16 K (2 K x 8)
OC_FARNELL: unknown; OC_NEWARK: unknown
footprint SO28W
part A pins: 1 RDY/!BSY (out), 3 A7, 4 A6, 5 A5, 6 A4, 7 A3, 8 A2, 9 A1, 10 A0, 11 D0 (hiz), 12 D1 (hiz), 13 D2 (hiz), 14 GND (power), 15 D3 (hiz), 16 D4 (hiz), 17 D5 (hiz), 18 D6 (hiz), 19 D7 (hiz), 20 !CE, 21 A10, 22 !OE, 24 A9, 25 A8, 27 !WE, 28 VCC (power)
part B pins: 2 NC
part C pins: 23 NC
part D pins: 26 NC

## 28*17ATS
designator IC?, comment CMOS EEPROM   16 K (2 K x 8)
OC_FARNELL: unknown; OC_NEWARK: unknown
footprint TSOP28
part A pins: 1 !OE, 3 A9, 4 A8, 6 !WE, 7 VCC (power), 8 RDY/!BSY (out), 10 A7, 11 A6, 12 A5, 13 A4, 14 A3, 15 A2, 16 A1, 17 A0, 18 D0 (hiz), 19 D1 (hiz), 20 D2 (hiz), 21 GND (power), 22 D3 (hiz), 23 D4 (hiz), 24 D5 (hiz), 25 D6 (hiz), 26 D7 (hiz), 27 !CE, 28 A10
part B pins: 2 NC
part C pins: 5 NC
part D pins: 9 NC

## 28*17AVS
designator IC?, comment CMOS EEPROM   16 K (2 K x 8)
OC_FARNELL: unknown; OC_NEWARK: unknown
footprint VSOP28-8X13
part A pins: 1 RDY/!BSY (out), 3 A7, 4 A6, 5 A5, 6 A4, 7 A3, 8 A2, 9 A1, 10 A0, 11 D0 (hiz), 12 D1 (hiz), 13 D2 (hiz), 14 GND (power), 15 D3 (hiz), 16 D4 (hiz), 17 D5 (hiz), 18 D6 (hiz), 19 D7 (hiz), 20 !CE, 21 A10, 22 !OE, 24 A9, 25 A8, 27 !WE, 28 VCC (power)
part B pins: 2 NC
part C pins: 23 NC
part D pins: 26 NC

## 28*64AL
designator IC?, comment CMOS EEPROM   64 K (8 K x 8), low voltage
MPN: CAT28C64BGI-12T; OC_FARNELL: 1718494; OC_NEWARK: 08R5439; OC_FARNELL: unknown; OC_NEWARK: unknown
footprint PLCC-32
pins: 2 RDY/!BSY (out), 3 A12, 4 A7, 5 A6, 6 A5, 7 A4, 8 A3, 9 A2, 10 A1, 11 A0, 13 D0 (hiz), 14 D1 (hiz), 15 D2 (hiz), 16 GND (power), 18 D3 (hiz), 19 D4 (hiz), 20 D5 (hiz), 21 D6 (hiz), 22 D7 (hiz), 23 !CE, 24 A10, 25 !OE, 27 A11, 28 A9, 29 A8, 31 !WE, 32 VCC (power)

## 28*64AP
designator IC?, comment CMOS EEPROM   64 K (8 K x 8), low voltage
MPN: AT28C64B-15PU; MPN: CAT28LV64LI-25; OC_FARNELL: 1631144; OC_NEWARK: 96K6557; OC_FARNELL: unknown; OC_NEWARK: 06R0912
footprint DIL28-6
pins: 1 RDY/!BSY (out), 2 A12, 3 A7, 4 A6, 5 A5, 6 A4, 7 A3, 8 A2, 9 A1, 10 A0, 11 D0 (hiz), 12 D1 (hiz), 13 D2 (hiz), 14 GND (power), 15 D3 (hiz), 16 D4 (hiz), 17 D5 (hiz), 18 D6 (hiz), 19 D7 (hiz), 20 !CE, 21 A10, 22 !OE, 23 A11, 24 A9, 25 A8, 27 !WE, 28 VCC (power)

## 28*64ASO
designator IC?, comment CMOS EEPROM   64 K (8 K x 8), low voltage
MPN: CAT28C64BWI-12; MPN: CAT28LV64W-25; OC_FARNELL: 1718312; OC_NEWARK: 06R0739; OC_FARNELL: 1718338; OC_NEWARK: 06R0915
footprint SO28W
pins: 1 RDY/!BSY (out), 2 A12, 3 A7, 4 A6, 5 A5, 6 A4, 7 A3, 8 A2, 9 A1, 10 A0, 11 D0 (hiz), 12 D1 (hiz), 13 D2 (hiz), 14 GND (power), 15 D3 (hiz), 16 D4 (hiz), 17 D5 (hiz), 18 D6 (hiz), 19 D7 (hiz), 20 !CE, 21 A10, 22 !OE, 23 A11, 24 A9, 25 A8, 27 !WE, 28 VCC (power)

## 28*64ATS
designator IC?, comment CMOS EEPROM   64 K (8 K x 8), low voltage
MPN: CAT28LV64H13-20; OC_FARNELL: unknown; OC_NEWARK: unknown; OC_FARNELL: 1718417; OC_NEWARK: 06R0901
footprint TSOP28
pins: 1 !OE, 2 A11, 3 A9, 4 A8, 6 !WE, 7 VCC (power), 8 RDY/!BSY (out), 9 A12, 10 A7, 11 A6, 12 A5, 13 A4, 14 A3, 15 A2, 16 A1, 17 A0, 18 D0 (hiz), 19 D1 (hiz), 20 D2 (hiz), 21 GND (power), 22 D3 (hiz), 23 D4 (hiz), 24 D5 (hiz), 25 D6 (hiz), 26 D7 (hiz), 27 !CE, 28 A10

## 28*64AVS
designator IC?, comment CMOS EEPROM   64 K (8 K x 8), low voltage
OC_FARNELL: unknown; OC_NEWARK: unknown
footprint VSOP28-8X13
pins: 1 RDY/!BSY (out), 2 A12, 3 A7, 4 A6, 5 A5, 6 A4, 7 A3, 8 A2, 9 A1, 10 A0, 11 D0 (hiz), 12 D1 (hiz), 13 D2 (hiz), 14 GND (power), 15 D3 (hiz), 16 D4 (hiz), 17 D5 (hiz), 18 D6 (hiz), 19 D7 (hiz), 20 !CE, 21 A10, 22 !OE, 23 A11, 24 A9, 25 A8, 27 !WE, 28 VCC (power)

## 37LV*L
designator IC?, comment Serial EPROM   36 K/64 K/128 K
OC_FARNELL: unknown; OC_NEWARK: unknown
footprint PLCC20S
pins: 2 DATA (hiz), 4 CLK, 6 !OE, 8 !CE, 10 GND (power), 14 !CEO (out), 17 VPP, 20 VCC (power)

## 37LV*P
designator IC?, comment Serial EPROM   36 K/64 K/128 K
OC_FARNELL: unknown; OC_NEWARK: unknown
footprint DIL8
pins: 1 DATA (hiz), 2 CLK, 3 !OE, 4 !CE, 5 GND (power), 6 !CEO (out), 7 VPP, 8 VCC (power)

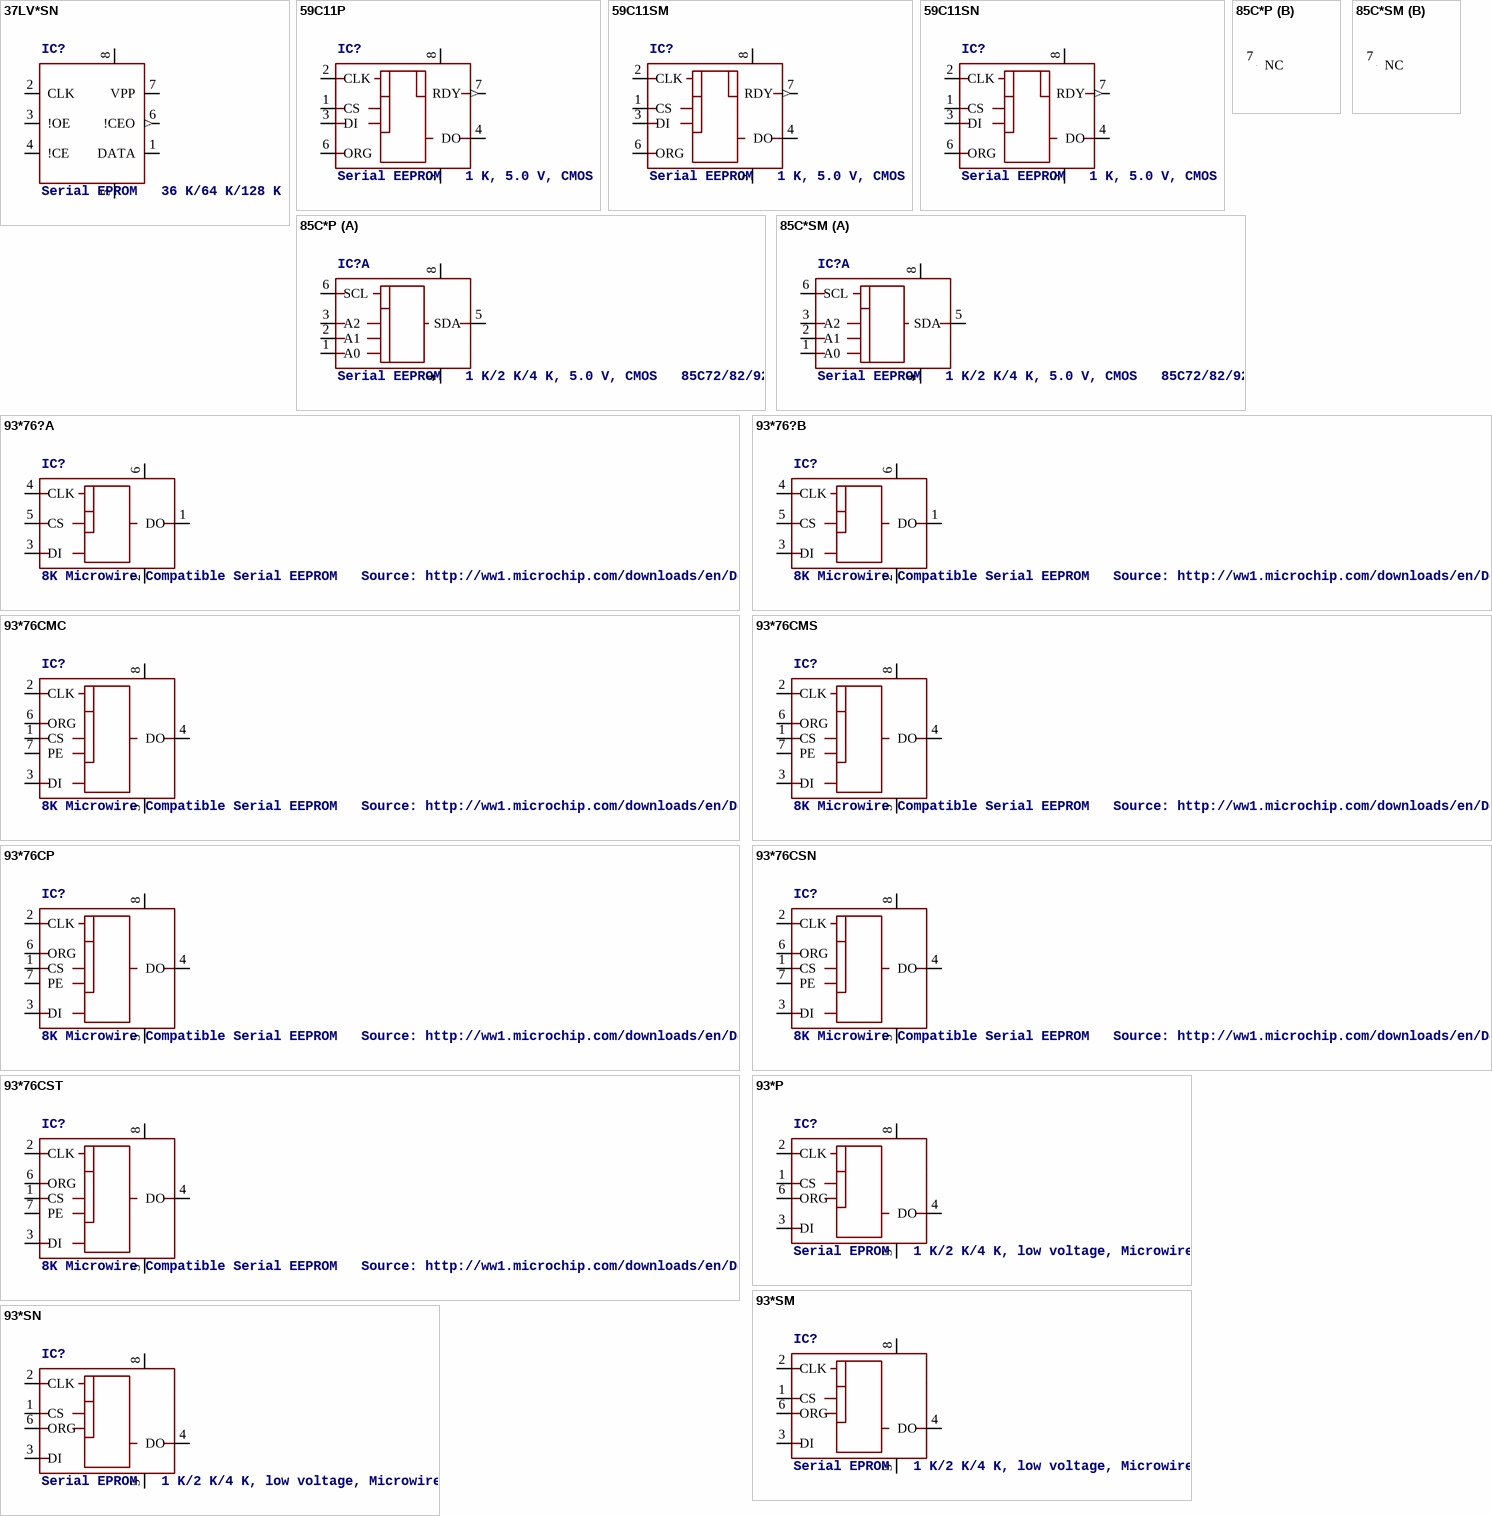
[diagram p4: symbols 37LV*SN to 93*SN]

## 37LV*SN
designator IC?, comment Serial EPROM   36 K/64 K/128 K
OC_FARNELL: unknown; OC_NEWARK: unknown
footprint SO-08
pins: 1 DATA (hiz), 2 CLK, 3 !OE, 4 !CE, 5 GND (power), 6 !CEO (out), 7 VPP, 8 VCC (power)

## 59C11P
designator IC?, comment Serial EEPROM   1 K, 5.0 V, CMOS
OC_FARNELL: unknown; OC_NEWARK: unknown
footprint DIL8
pins: 1 CS, 2 CLK, 3 DI, 4 DO (hiz), 5 GND (power), 6 ORG, 7 RDY (out), 8 VCC (power)

## 59C11SM
designator IC?, comment Serial EEPROM   1 K, 5.0 V, CMOS
OC_FARNELL: unknown; OC_NEWARK: unknown
footprint SO-08M
pins: 1 CS, 2 CLK, 3 DI, 4 DO (hiz), 5 GND (power), 6 ORG, 7 RDY (out), 8 VCC (power)

## 59C11SN
designator IC?, comment Serial EEPROM   1 K, 5.0 V, CMOS
OC_FARNELL: unknown; OC_NEWARK: unknown
footprint SO-08
pins: 1 CS, 2 CLK, 3 DI, 4 DO (hiz), 5 GND (power), 6 ORG, 7 RDY (out), 8 VCC (power)

## 85C*P
designator IC?, comment Serial EEPROM   1 K/2 K/4 K, 5.0 V, CMOS   85C72/82/92
OC_FARNELL: unknown; OC_NEWARK: unknown
footprint DIL8
part A pins: 1 A0, 2 A1, 3 A2, 4 GND (power), 5 SDA (hiz), 6 SCL, 8 VCC (power)
part B pins: 7 NC

## 85C*SM
designator IC?, comment Serial EEPROM   1 K/2 K/4 K, 5.0 V, CMOS   85C72/82/92
OC_FARNELL: unknown; OC_NEWARK: unknown
footprint SO-08M
part A pins: 1 A0, 2 A1, 3 A2, 4 GND (power), 5 SDA (hiz), 6 SCL, 8 VCC (power)
part B pins: 7 NC

## 93*76?A
designator IC?, comment 8K Microwire Compatible Serial EEPROM   Source: http://ww1.microchip.com/downloads/en/DeviceDoc/21796H.pdf
MPN: 93AA76AT-I/OT; MPN: 93LC76AT-I/OT; OC_FARNELL: 1331443; OC_NEWARK: 35M2481; OC_FARNELL: unknown; OC_NEWARK: unknown; MF: MICROCHIP; OC_FARNELL: 1556170; OC_NEWARK: 61H6824
footprint SOT23-6
pins: 1 DO (hiz), 2 GND (power), 3 DI, 4 CLK, 5 CS, 6 VCC (power)

## 93*76?B
designator IC?, comment 8K Microwire Compatible Serial EEPROM   Source: http://ww1.microchip.com/downloads/en/DeviceDoc/21796H.pdf
MPN: 93AA76BT-I/OT; MPN: 93LC76BT-I/OT; OC_FARNELL: 1331444; OC_NEWARK: 35M2482; OC_FARNELL: unknown; OC_NEWARK: unknown; MF: MICROCHIP; OC_FARNELL: 1556170; OC_NEWARK: 61H6848
footprint SOT23-6
pins: 1 DO (hiz), 2 GND (power), 3 DI, 4 CLK, 5 CS, 6 VCC (power)

## 93*76CMC
designator IC?, comment 8K Microwire Compatible Serial EEPROM   Source: http://ww1.microchip.com/downloads/en/DeviceDoc/21796H.pdf
OC_FARNELL: unknown; OC_NEWARK: unknown
footprint DFN-2X3
pins: 1 CS, 2 CLK, 3 DI, 4 DO (hiz), 5 GND (power), 6 ORG, 7 PE, 8 VCC (power)

## 93*76CMS
designator IC?, comment 8K Microwire Compatible Serial EEPROM   Source: http://ww1.microchip.com/downloads/en/DeviceDoc/21796H.pdf
MPN: 93AA76C-I/MS; MPN: 93LC76C-I/MS; OC_FARNELL: 1331445; OC_NEWARK: 35M2483; OC_FARNELL: unknown; OC_NEWARK: unknown; OC_FARNELL: 1331476; OC_NEWARK: 35M2509
footprint MSOP8
pins: 1 CS, 2 CLK, 3 DI, 4 DO (hiz), 5 GND (power), 6 ORG, 7 PE, 8 VCC (power)

## 93*76CP
designator IC?, comment 8K Microwire Compatible Serial EEPROM   Source: http://ww1.microchip.com/downloads/en/DeviceDoc/21796H.pdf
MPN: 93AA76C-I/P; MPN: 93C76C-I/P; MPN: 93LC76C-I/P; MF: MICROCHIP; OC_FARNELL: 1331446; OC_NEWARK: 61H6457; OC_FARNELL: unknown; OC_NEWARK: 61H6696; OC_FARNELL: 1556171; OC_NEWARK: 95M3420
footprint DIL8
pins: 1 CS, 2 CLK, 3 DI, 4 DO (hiz), 5 GND (power), 6 ORG, 7 PE, 8 VCC (power)

## 93*76CSN
designator IC?, comment 8K Microwire Compatible Serial EEPROM   Source: http://ww1.microchip.com/downloads/en/DeviceDoc/21796H.pdf
MPN: 93AA76C-I/SN; MPN: 93C76C-I/SN; MPN: 93LC76C-I/SN; OC_FARNELL: 1331447; OC_NEWARK: 35M2485; MF: MICROCHIP; OC_FARNELL: 1815963; OC_NEWARK: 61H6698; OC_FARNELL: unknown; OC_NEWARK: 96K4113
footprint SO-08
pins: 1 CS, 2 CLK, 3 DI, 4 DO (hiz), 5 GND (power), 6 ORG, 7 PE, 8 VCC (power)

## 93*76CST
designator IC?, comment 8K Microwire Compatible Serial EEPROM   Source: http://ww1.microchip.com/downloads/en/DeviceDoc/21796H.pdf
MPN: 93AA76CT-I/ST; MPN: 93C76CT-I/ST; MPN: 93LC76C-I/ST; MF: MICROCHIP; OC_FARNELL: unknown; OC_NEWARK: 61H6467; OC_NEWARK: 61H6709; OC_NEWARK: 96K4114
footprint TSSOP8
pins: 1 CS, 2 CLK, 3 DI, 4 DO (hiz), 5 GND (power), 6 ORG, 7 PE, 8 VCC (power)

## 93*P
designator IC?, comment Serial EPROM   1 K/2 K/4 K, low voltage, Microwire
MPN: 93AA46/P; MPN: 93AA56C-I/P; MPN: 93AA66/P; MPN: 93LC46/P; MPN: 93LC56/P; MPN: 93LC66/P; MF: MICROCHIP; OC_FARNELL: 1331412; OC_NEWARK: 96K4099; OC_FARNELL: 1331421; OC_NEWARK: 30H4522; OC_FARNELL: 1331440; OC_NEWARK: 92C7573; OC_FARNELL: 1212720; OC_NEWARK: 33C3013; OC_FARNELL: 1556157; OC_NEWARK: 96K4105; OC_FARNELL: 1556169; OC_NEWARK: 62K2086
footprint DIL8
pins: 1 CS, 2 CLK, 3 DI, 4 DO (hiz), 5 GND (power), 6 ORG, 7 NU, 8 VCC (power)

## 93*SM
designator IC?, comment Serial EPROM   1 K/2 K/4 K, low voltage, Microwire
MPN: 93AA46A-I/SN; MPN: 93AA56/SN; MPN: 93AA66C-I/SN; MPN: 93LC46B/SN; MPN: 93LC56T/SN; MPN: 93LC66/SN; MF: MICROCHIP; OC_FARNELL: 1331414; OC_NEWARK: 96K4101; OC_FARNELL: 1331418; OC_NEWARK: 92C7564; OC_FARNELL: 1331432; OC_NEWARK: 30H4582; OC_FARNELL: 1084341; OC_NEWARK: 65K1153; OC_FARNELL: 9758240; OC_NEWARK: 92C7699; OC_FARNELL: 1296586; OC_NEWARK: 65K1154
footprint SO-08M
pins: 1 CS, 2 CLK, 3 DI, 4 DO (hiz), 5 GND (power), 6 ORG, 7 NU, 8 VCC (power)

## 93*SN
designator IC?, comment Serial EPROM   1 K/2 K/4 K, low voltage, Microwire
MPN: 93AA46/SN; MPN: 93AA56/SN; MPN: 93AA66C-I/SN; MPN: 93LC46/SN; MPN: 93LC66/SN; MF: MICROCHIP; OC_FARNELL: 1331414; OC_NEWARK: 96K4100; OC_FARNELL: 1816074; OC_NEWARK: 92C7564; OC_FARNELL: 1331441; OC_NEWARK: 30H4582; OC_FARNELL: unknown; OC_NEWARK: unknown; OC_FARNELL: 9758194; OC_NEWARK: 12C2030; OC_FARNELL: 1296586; OC_NEWARK: 65K1154
footprint SO-08
pins: 1 CS, 2 CLK, 3 DI, 4 DO (hiz), 5 GND (power), 6 ORG, 7 NU, 8 VCC (power)

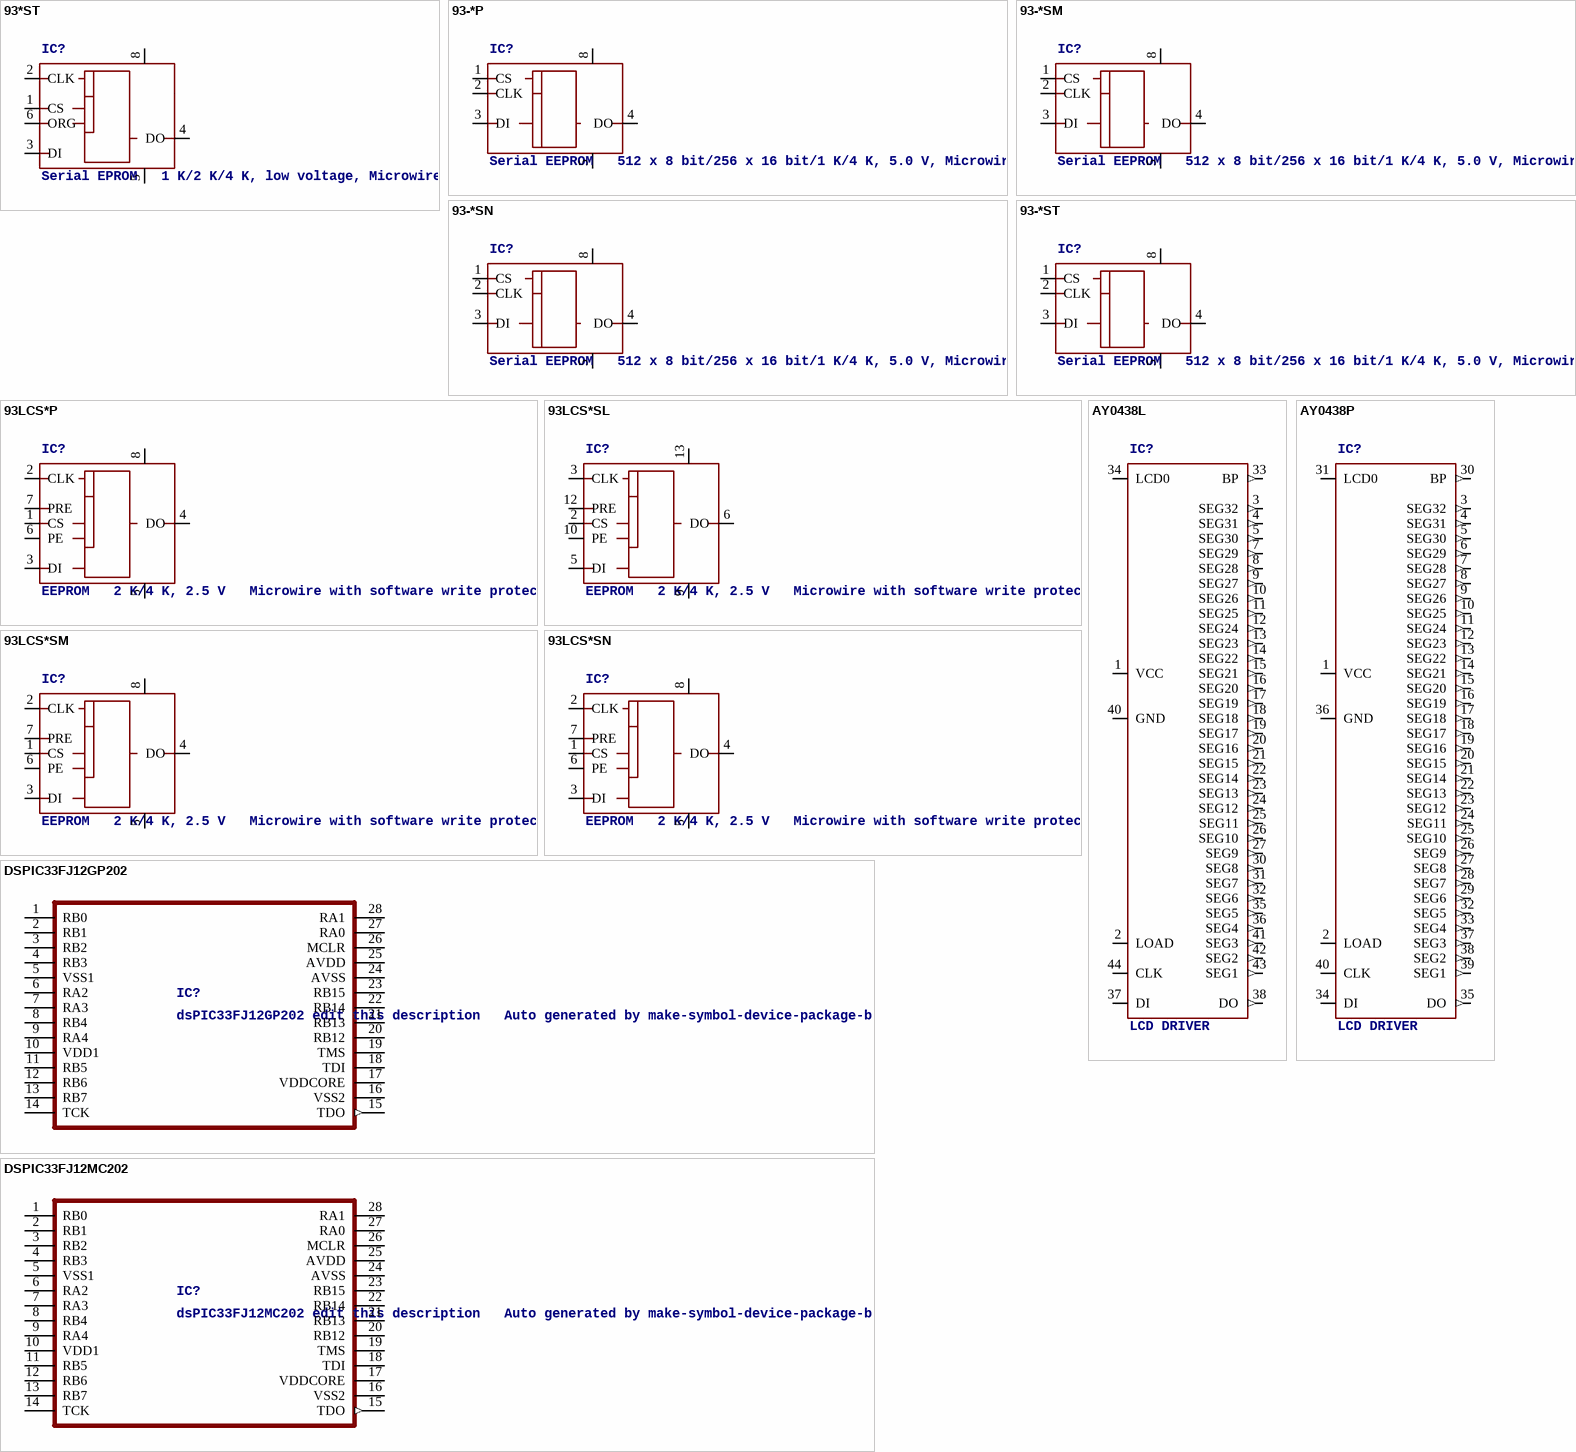
[diagram p5: symbols 93*ST to DSPIC33FJ12MC202]

## 93*ST
designator IC?, comment Serial EPROM   1 K/2 K/4 K, low voltage, Microwire
MPN: 93LC46C-I/ST; MPN: 93LC56B-I/ST; MPN: 93LC66C-I/ST; MF: MICROCHIP; OC_FARNELL: 1817225; OC_NEWARK: 30H4716; OC_FARNELL: unknown; OC_NEWARK: 92C7687; OC_FARNELL: 1846729; OC_NEWARK: 30H4846
footprint TSSOP8
pins: 1 CS, 2 CLK, 3 DI, 4 DO (hiz), 5 GND (power), 6 ORG, 7 NU, 8 VCC (power)

## 93-*P
designator IC?, comment Serial EEPROM   512 x 8 bit/256 x 16 bit/1 K/4 K, 5.0 V, Microwire
MPN: 93C46A-I/P; MPN: 93C46B/P; MPN: 93C56A-E/P; MPN: 93C56B-I/P; MPN: 93C66A-I/P; MPN: 93C66B-I/P; MPN: 93LC56A/P; MPN: 93LC56B/P; MF: MICROCHIP; OC_FARNELL: 1847808; OC_NEWARK: 92C7591; OC_FARNELL: 1084337; OC_NEWARK: 69K7676; OC_FARNELL: unknown; OC_NEWARK: 92C7619; OC_FARNELL: 1718065; OC_NEWARK: 61H6567; OC_FARNELL: 1818607; OC_NEWARK: 61H6596; OC_FARNELL: 1818523; OC_NEWARK: 61H6625; OC_FARNELL: 1212671; OC_NEWARK: 75K5894; OC_FARNELL: 1084250; OC_NEWARK: 96K4108
footprint DIL8
pins: 1 CS, 2 CLK, 3 DI, 4 DO (hiz), 5 GND (power), 8 VCC (power)

## 93-*SM
designator IC?, comment Serial EEPROM   512 x 8 bit/256 x 16 bit/1 K/4 K, 5.0 V, Microwire
MPN: 93C46A-I/SN; MPN: 93C46B/SN; MPN: 93LC56A/SN; MPN: 93LC56B/SN; MF: MICROCHIP; OC_FARNELL: 1816075; OC_NEWARK: 92C7592; OC_FARNELL: 9758178; OC_NEWARK: 75K5893; OC_FARNELL: 1212672; OC_NEWARK: 33C3019; OC_FARNELL: 9758240; OC_NEWARK: 96K4109
footprint SO-08M
pins: 1 CS, 2 CLK, 3 DI, 4 DO (hiz), 5 GND (power), 8 VCC (power)

## 93-*SN
designator IC?, comment Serial EEPROM   512 x 8 bit/256 x 16 bit/1 K/4 K, 5.0 V, Microwire
MPN: 93C46A-I/SN; MPN: 93C46B/SN; MPN: 93C56A-I/SN; MPN: 93C56B-I/SN; MPN: 93C66A-I/SN; MPN: 93LC56A/SN; MPN: 93LC56B/SN; MF: MICROCHIP; OC_FARNELL: 1816075; OC_NEWARK: 92C7592; OC_FARNELL: 9758178; OC_NEWARK: 75K5893; OC_FARNELL: 1815962; OC_NEWARK: 61H6540; OC_FARNELL: 1847100; OC_NEWARK: 61H6569; OC_FARNELL: 1847311; OC_NEWARK: 61H6598; OC_FARNELL: unknown; OC_NEWARK: unknown; OC_FARNELL: 1212672; OC_NEWARK: 33C3019; OC_FARNELL: 9758240; OC_NEWARK: 96K4109
footprint SO-08
pins: 1 CS, 2 CLK, 3 DI, 4 DO (hiz), 5 GND (power), 8 VCC (power)

## 93-*ST
designator IC?, comment Serial EEPROM   512 x 8 bit/256 x 16 bit/1 K/4 K, 5.0 V, Microwire
MPN: CAT93C46YI-G; MPN: 93C46B/ST; MPN: 93LC56A-E/ST; MPN: 93LC56B-E/ST; MF: MICROCHIP; OC_FARNELL: 1718375; OC_NEWARK: 74P0100; OC_FARNELL: unknown; OC_NEWARK: 92C7605; OC_NEWARK: 30H4734; OC_NEWARK: 30H4749
footprint TSSOP8
pins: 1 CS, 2 CLK, 3 DI, 4 DO (hiz), 5 GND (power), 8 VCC (power)

## 93LCS*P
designator IC?, comment EEPROM   2 K/4 K, 2.5 V   Microwire with software write protect
OC_FARNELL: unknown; OC_NEWARK: unknown
footprint DIL8
pins: 1 CS, 2 CLK, 3 DI, 4 DO (hiz), 5 GND (power), 6 PE, 7 PRE, 8 VCC (power)

## 93LCS*SL
designator IC?, comment EEPROM   2 K/4 K, 2.5 V   Microwire with software write protect
OC_FARNELL: unknown; OC_NEWARK: unknown
footprint SO-14
pins: 2 CS, 3 CLK, 5 DI, 6 DO (hiz), 9 GND (power), 10 PE, 12 PRE, 13 VCC (power)

## 93LCS*SM
designator IC?, comment EEPROM   2 K/4 K, 2.5 V   Microwire with software write protect
OC_FARNELL: unknown; OC_NEWARK: unknown
footprint SO-08M
pins: 1 CS, 2 CLK, 3 DI, 4 DO (hiz), 5 GND (power), 6 PE, 7 PRE, 8 VCC (power)

## 93LCS*SN
designator IC?, comment EEPROM   2 K/4 K, 2.5 V   Microwire with software write protect
OC_FARNELL: unknown; OC_NEWARK: unknown
footprint SO-08
pins: 1 CS, 2 CLK, 3 DI, 4 DO (hiz), 5 GND (power), 6 PE, 7 PRE, 8 VCC (power)

## AY0438L
designator IC?, comment LCD DRIVER
MPN: AY0438/L; MF: MICROCHIP; OC_FARNELL: 1467690; OC_NEWARK: 96K3652
footprint PLCC-44
pins: 1 VCC (power), 2 LOAD, 3 SEG32 (out), 4 SEG31 (out), 5 SEG30 (out), 7 SEG29 (out), 8 SEG28 (out), 9 SEG27 (out), 10 SEG26 (out), 11 SEG25 (out), 12 SEG24 (out), 13 SEG23 (out), 14 SEG22 (out), 15 SEG21 (out), 16 SEG20 (out), 17 SEG19 (out), 18 SEG18 (out), 19 SEG17 (out), 20 SEG16 (out), 21 SEG15 (out), 22 SEG14 (out), 23 SEG13 (out), 24 SEG12 (out), 25 SEG11 (out), 26 SEG10 (out), 27 SEG9 (out), 30 SEG8 (out), 31 SEG7 (out), 32 SEG6 (out), 33 BP (out), 34 LCD0, 35 SEG5 (out), 36 SEG4 (out), 37 DI, 38 DO (out), 40 GND (power), 41 SEG3 (out), 42 SEG2 (out), 43 SEG1 (out), 44 CLK

## AY0438P
designator IC?, comment LCD DRIVER
MPN: AY0438/P; MF: MICROCHIP; OC_FARNELL: 1627184; OC_NEWARK: 23C2747
footprint DIL40
pins: 1 VCC (power), 2 LOAD, 3 SEG32 (out), 4 SEG31 (out), 5 SEG30 (out), 6 SEG29 (out), 7 SEG28 (out), 8 SEG27 (out), 9 SEG26 (out), 10 SEG25 (out), 11 SEG24 (out), 12 SEG23 (out), 13 SEG22 (out), 14 SEG21 (out), 15 SEG20 (out), 16 SEG19 (out), 17 SEG18 (out), 18 SEG17 (out), 19 SEG16 (out), 20 SEG15 (out), 21 SEG14 (out), 22 SEG13 (out), 23 SEG12 (out), 24 SEG11 (out), 25 SEG10 (out), 26 SEG9 (out), 27 SEG8 (out), 28 SEG7 (out), 29 SEG6 (out), 30 BP (out), 31 LCD0, 32 SEG5 (out), 33 SEG4 (out), 34 DI, 35 DO (out), 36 GND (power), 37 SEG3 (out), 38 SEG2 (out), 39 SEG1 (out), 40 CLK

## DSPIC33FJ12GP202
designator IC?, comment dsPIC33FJ12GP202 edit this description   Auto generated by make-symbol-device-package-bsdl.ulp Rev. 25 Source: dsPIC33FJ12GP202.bsd
MPN: DSPIC33FJ12GP202-I/ML; OC_FARNELL: unknown; OC_NEWARK: 88K3892
footprint QFN28-ML_6X6MM
pins: 1 RB0, 2 RB1, 3 RB2, 4 RB3, 5 VSS1 (power), 6 RA2, 7 RA3, 8 RB4, 9 RA4, 10 VDD1 (power), 11 RB5, 12 RB6, 13 RB7, 14 TCK, 15 TDO (out), 16 VSS2 (power), 17 VDDCORE (power), 18 TDI, 19 TMS, 20 RB12, 21 RB13, 22 RB14, 23 RB15, 24 AVSS (power), 25 AVDD (power), 26 MCLR, 27 RA0, 28 RA1

## DSPIC33FJ12MC202
designator IC?, comment dsPIC33FJ12MC202 edit this description   Auto generated by make-symbol-device-package-bsdl.ulp Rev. 25 Source: dsPIC33FJ12MC202.bsd
MPN: DSPIC33FJ12MC202-I/ML; OC_FARNELL: unknown; OC_NEWARK: 88K3897
footprint QFN28-ML_6X6MM
pins: 1 RB0, 2 RB1, 3 RB2, 4 RB3, 5 VSS1 (power), 6 RA2, 7 RA3, 8 RB4, 9 RA4, 10 VDD1 (power), 11 RB5, 12 RB6, 13 RB7, 14 TCK, 15 TDO (out), 16 VSS2 (power), 17 VDDCORE (power), 18 TDI, 19 TMS, 20 RB12, 21 RB13, 22 RB14, 23 RB15, 24 AVSS (power), 25 AVDD (power), 26 MCLR, 27 RA0, 28 RA1

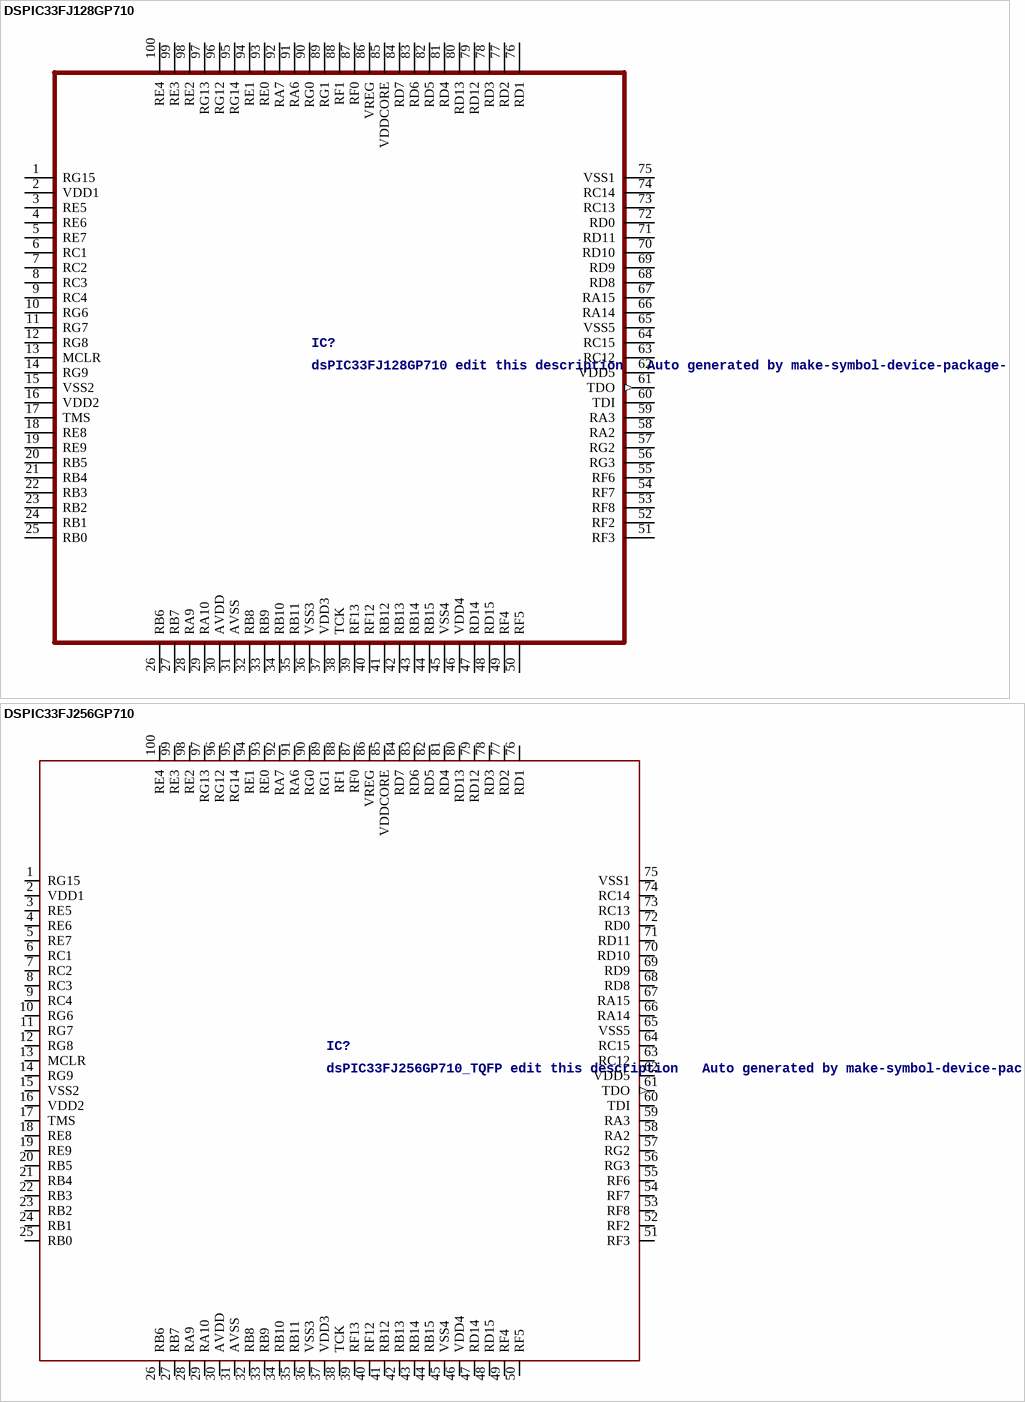
[diagram p6: symbols DSPIC33FJ128GP710 to DSPIC33FJ256GP710]

## DSPIC33FJ128GP710
designator IC?, comment dsPIC33FJ128GP710 edit this description   Auto generated by make-symbol-device-package-bsdl.ulp Rev. 25 Source: dsPIC33FJ128GP710.bsd
MPN: DSPIC33FJ128GP710-I/PF; OC_FARNELL: 1818690; OC_NEWARK: 74K4953
footprint TQFP100-14X14
pins: 1 RG15, 2 VDD1 (power), 3 RE5, 4 RE6, 5 RE7, 6 RC1, 7 RC2, 8 RC3, 9 RC4, 10 RG6, 11 RG7, 12 RG8, 13 MCLR, 14 RG9, 15 VSS2 (power), 16 VDD2 (power), 17 TMS, 18 RE8, 19 RE9, 20 RB5, 21 RB4, 22 RB3, 23 RB2, 24 RB1, 25 RB0, 26 RB6, 27 RB7, 28 RA9, 29 RA10, 30 AVDD (power), 31 AVSS (power), 32 RB8, 33 RB9, 34 RB10, 35 RB11, 36 VSS3 (power), 37 VDD3 (power), 38 TCK, 39 RF13, 40 RF12, 41 RB12, 42 RB13, 43 RB14, 44 RB15, 45 VSS4 (power), 46 VDD4 (power), 47 RD14, 48 RD15, 49 RF4, 50 RF5, 51 RF3, 52 RF2, 53 RF8, 54 RF7, 55 RF6, 56 RG3, 57 RG2, 58 RA2, 59 RA3, 60 TDI, 61 TDO (out), 62 VDD5 (power), 63 RC12, 64 RC15, 65 VSS5 (power), 66 RA14, 67 RA15, 68 RD8, 69 RD9, 70 RD10, 71 RD11, 72 RD0, 73 RC13, 74 RC14, 75 VSS1 (power), 76 RD1, 77 RD2, 78 RD3, 79 RD12, 80 RD13, 81 RD4, 82 RD5, 83 RD6, 84 RD7, 85 VDDCORE (power), 86 VREG, 87 RF0, 88 RF1, 89 RG1, 90 RG0, 91 RA6, 92 RA7, 93 RE0, 94 RE1, 95 RG14, 96 RG12, 97 RG13, 98 RE2, 99 RE3, 100 RE4

## DSPIC33FJ256GP710
designator IC?, comment dsPIC33FJ256GP710_TQFP edit this description   Auto generated by make-symbol-device-package-bsdl.ulp Rev. 41 Source: dsPIC33FJ256GP710_TQFP.bsd
footprint TQFP100-12X12
pins: 1 RG15, 2 VDD1 (power), 3 RE5, 4 RE6, 5 RE7, 6 RC1, 7 RC2, 8 RC3, 9 RC4, 10 RG6, 11 RG7, 12 RG8, 13 MCLR, 14 RG9, 15 VSS2 (power), 16 VDD2 (power), 17 TMS, 18 RE8, 19 RE9, 20 RB5, 21 RB4, 22 RB3, 23 RB2, 24 RB1, 25 RB0, 26 RB6, 27 RB7, 28 RA9, 29 RA10, 30 AVDD (power), 31 AVSS (power), 32 RB8, 33 RB9, 34 RB10, 35 RB11, 36 VSS3 (power), 37 VDD3 (power), 38 TCK, 39 RF13, 40 RF12, 41 RB12, 42 RB13, 43 RB14, 44 RB15, 45 VSS4 (power), 46 VDD4 (power), 47 RD14, 48 RD15, 49 RF4, 50 RF5, 51 RF3, 52 RF2, 53 RF8, 54 RF7, 55 RF6, 56 RG3, 57 RG2, 58 RA2, 59 RA3, 60 TDI, 61 TDO (out), 62 VDD5 (power), 63 RC12, 64 RC15, 65 VSS5 (power), 66 RA14, 67 RA15, 68 RD8, 69 RD9, 70 RD10, 71 RD11, 72 RD0, 73 RC13, 74 RC14, 75 VSS1 (power), 76 RD1, 77 RD2, 78 RD3, 79 RD12, 80 RD13, 81 RD4, 82 RD5, 83 RD6, 84 RD7, 85 VDDCORE (power), 86 VREG, 87 RF0, 88 RF1, 89 RG1, 90 RG0, 91 RA6, 92 RA7, 93 RE0, 94 RE1, 95 RG14, 96 RG12, 97 RG13, 98 RE2, 99 RE3, 100 RE4

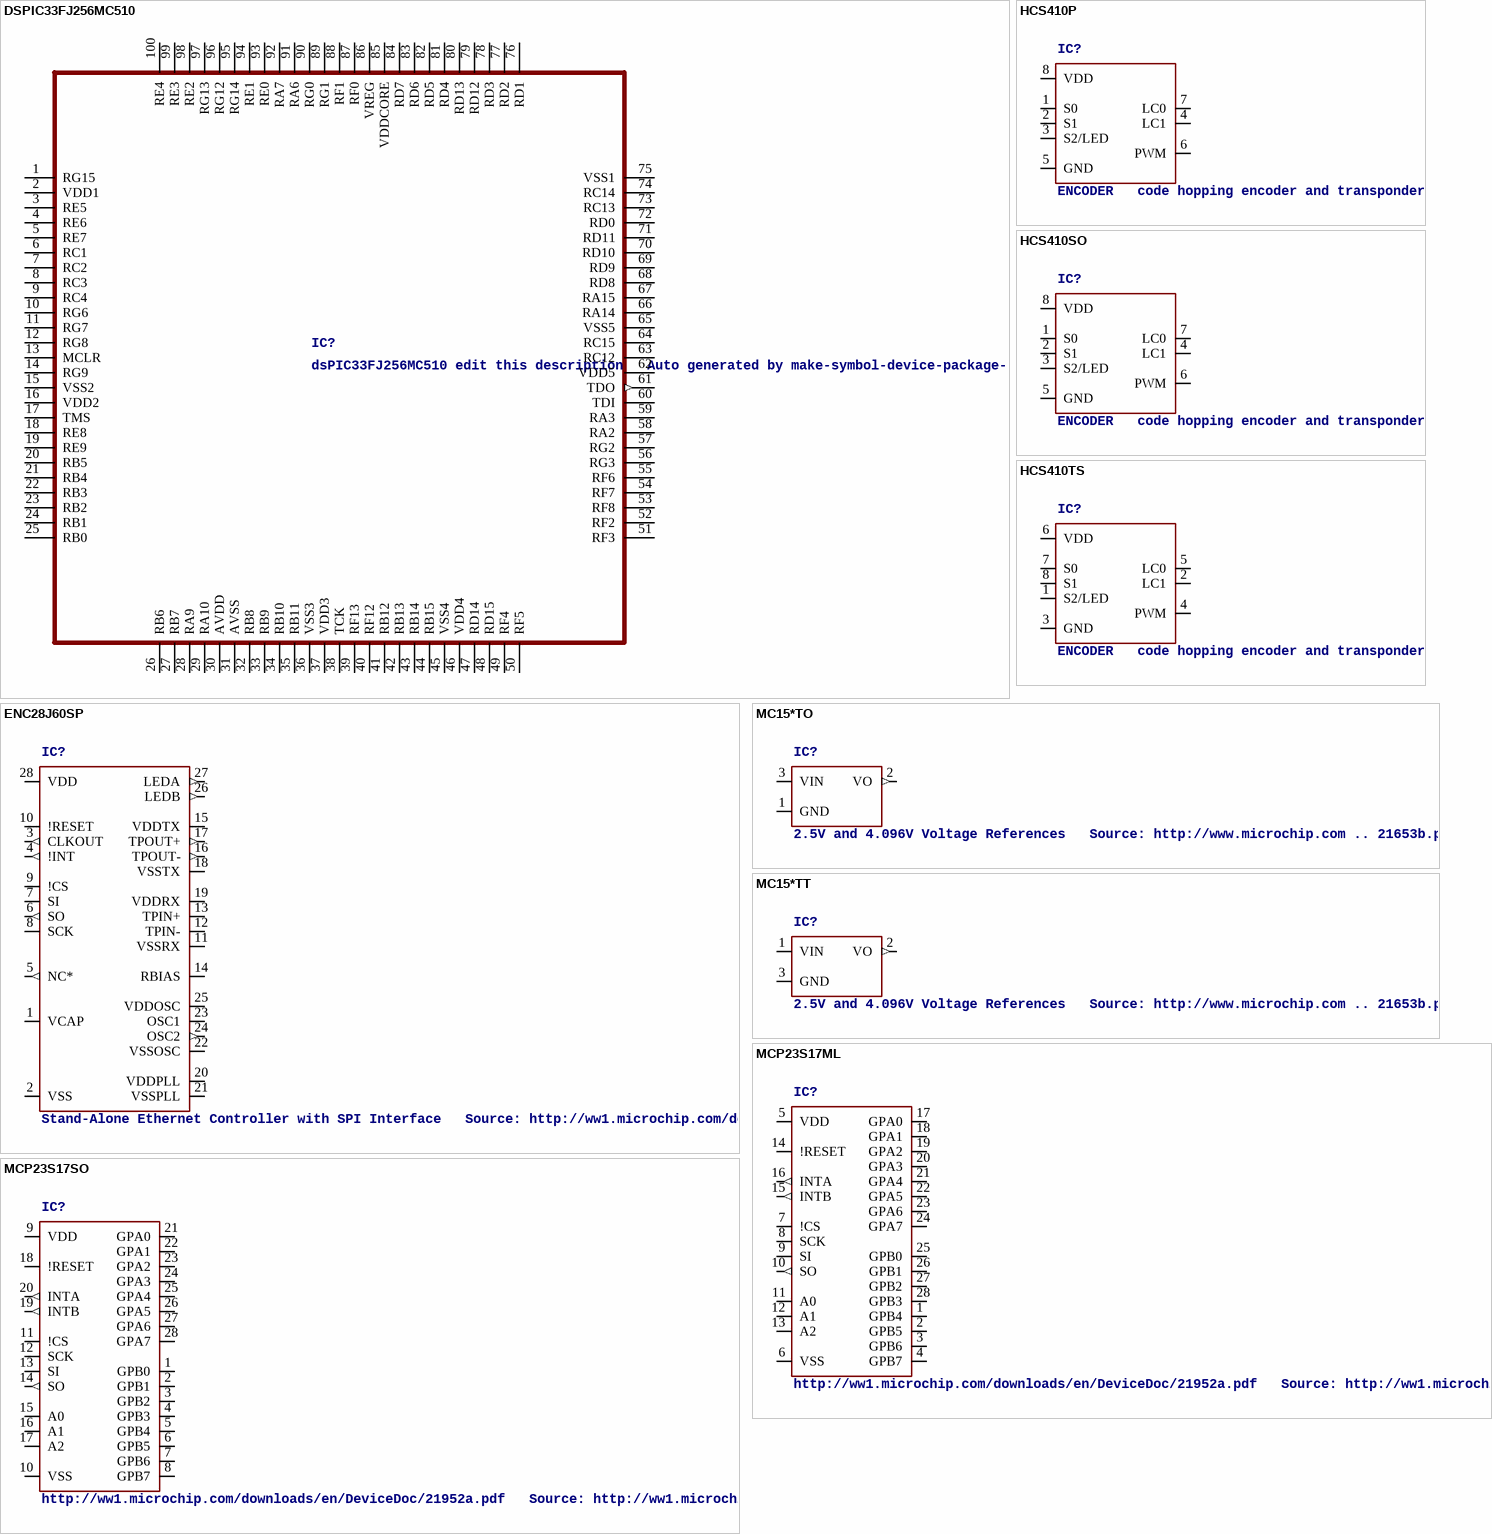
[diagram p7: symbols DSPIC33FJ256MC510 to MCP23S17SO]

## DSPIC33FJ256MC510
designator IC?, comment dsPIC33FJ256MC510 edit this description   Auto generated by make-symbol-device-package-bsdl.ulp Rev. 25 Source: dsPIC33FJ256MC510.bsd
MPN: DSPIC33FJ256MC510-I/PT; OC_FARNELL: 1332044; OC_NEWARK: 56K6751
footprint TQFP100-14X14
pins: 1 RG15, 2 VDD1 (power), 3 RE5, 4 RE6, 5 RE7, 6 RC1, 7 RC2, 8 RC3, 9 RC4, 10 RG6, 11 RG7, 12 RG8, 13 MCLR, 14 RG9, 15 VSS2 (power), 16 VDD2 (power), 17 TMS, 18 RE8, 19 RE9, 20 RB5, 21 RB4, 22 RB3, 23 RB2, 24 RB1, 25 RB0, 26 RB6, 27 RB7, 28 RA9, 29 RA10, 30 AVDD (power), 31 AVSS (power), 32 RB8, 33 RB9, 34 RB10, 35 RB11, 36 VSS3 (power), 37 VDD3 (power), 38 TCK, 39 RF13, 40 RF12, 41 RB12, 42 RB13, 43 RB14, 44 RB15, 45 VSS4 (power), 46 VDD4 (power), 47 RD14, 48 RD15, 49 RF4, 50 RF5, 51 RF3, 52 RF2, 53 RF8, 54 RF7, 55 RF6, 56 RG3, 57 RG2, 58 RA2, 59 RA3, 60 TDI, 61 TDO (out), 62 VDD5 (power), 63 RC12, 64 RC15, 65 VSS5 (power), 66 RA14, 67 RA15, 68 RD8, 69 RD9, 70 RD10, 71 RD11, 72 RD0, 73 RC13, 74 RC14, 75 VSS1 (power), 76 RD1, 77 RD2, 78 RD3, 79 RD12, 80 RD13, 81 RD4, 82 RD5, 83 RD6, 84 RD7, 85 VDDCORE (power), 86 VREG, 87 RF0, 88 RF1, 89 RG1, 90 RG0, 91 RA6, 92 RA7, 93 RE0, 94 RE1, 95 RG14, 96 RG12, 97 RG13, 98 RE2, 99 RE3, 100 RE4

## ENC28J60SP
designator IC?, comment Stand-Alone Ethernet Controller with SPI Interface   Source: http://ww1.microchip.com/downloads/en/DeviceDoc/39662c.pdf
MPN: ENC28J60/SP; MF: MICROCHIP; OC_FARNELL: 1084619; OC_NEWARK: 96K3661
footprint DIL28-3
pins: 1 VCAP, 2 VSS, 3 CLKOUT (out), 4 !INT (out), 5 NC* (out), 6 SO (out), 7 SI, 8 SCK, 9 !CS, 10 !RESET, 11 VSSRX, 12 TPIN-, 13 TPIN+, 14 RBIAS, 15 VDDTX, 16 TPOUT- (out), 17 TPOUT+ (out), 18 VSSTX, 19 VDDRX, 20 VDDPLL, 21 VSSPLL, 22 VSSOSC, 23 OSC1, 24 OSC2 (out), 25 VDDOSC, 26 LEDB (out), 27 LEDA (out), 28 VDD

## HCS410P
designator IC?, comment ENCODER   code hopping encoder and transponder
MPN: HCS410-I/P; MF: MICROCHIP; OC_FARNELL: unknown; OC_NEWARK: 96K3679
footprint DIL8
pins: 1 S0, 2 S1, 3 S2/LED, 4 LC1, 5 GND (power), 6 PWM, 7 LC0, 8 VDD (power)

## HCS410SO
designator IC?, comment ENCODER   code hopping encoder and transponder
OC_FARNELL: unknown; OC_NEWARK: unknown
footprint SO-08
pins: 1 S0, 2 S1, 3 S2/LED, 4 LC1, 5 GND (power), 6 PWM, 7 LC0, 8 VDD (power)

## HCS410TS
designator IC?, comment ENCODER   code hopping encoder and transponder
MPN: HCS410-I/ST; MF: MICROCHIP; OC_FARNELL: unknown; OC_NEWARK: 33C0783
footprint TSSOP8
pins: 1 S2/LED, 2 LC1, 3 GND (power), 4 PWM, 5 LC0, 6 VDD (power), 7 S0, 8 S1

## MC15*TO
designator IC?, comment 2.5V and 4.096V Voltage References   Source: http://www.microchip.com .. 21653b.pdf
OC_FARNELL: unknown; OC_NEWARK: unknown
footprint TO92
pins: 1 GND, 2 VO (out), 3 VIN

## MC15*TT
designator IC?, comment 2.5V and 4.096V Voltage References   Source: http://www.microchip.com .. 21653b.pdf
OC_FARNELL: unknown; OC_NEWARK: unknown
footprint SOT23
pins: 1 VIN, 2 VO (out), 3 GND

## MCP23S17ML
designator IC?, comment http://ww1.microchip.com/downloads/en/DeviceDoc/21952a.pdf   Source: http://ww1.microchip.com/downloads/en/DeviceDoc/21952a.pdf
MPN: MCP23S17-E/ML; MF: MICROCHIP; OC_FARNELL: unknown; OC_NEWARK: 31K2949
footprint QFN28-ML_6X6MM
pins: 1 GPB4, 2 GPB5, 3 GPB6, 4 GPB7, 5 VDD (power), 6 VSS (power), 7 !CS, 8 SCK, 9 SI, 10 SO (out), 11 A0, 12 A1, 13 A2, 14 !RESET, 15 INTB (out), 16 INTA (out), 17 GPA0, 18 GPA1, 19 GPA2, 20 GPA3, 21 GPA4, 22 GPA5, 23 GPA6, 24 GPA7, 25 GPB0, 26 GPB1, 27 GPB2, 28 GPB3

## MCP23S17SO
designator IC?, comment http://ww1.microchip.com/downloads/en/DeviceDoc/21952a.pdf   Source: http://ww1.microchip.com/downloads/en/DeviceDoc/21952a.pdf
MPN: MCP23S17-E/SO; MF: MICROCHIP; OC_FARNELL: unknown; OC_NEWARK: 31K2950
footprint SO28W
pins: 1 GPB0, 2 GPB1, 3 GPB2, 4 GPB3, 5 GPB4, 6 GPB5, 7 GPB6, 8 GPB7, 9 VDD (power), 10 VSS (power), 11 !CS, 12 SCK, 13 SI, 14 SO (out), 15 A0, 16 A1, 17 A2, 18 !RESET, 19 INTB (out), 20 INTA (out), 21 GPA0, 22 GPA1, 23 GPA2, 24 GPA3, 25 GPA4, 26 GPA5, 27 GPA6, 28 GPA7

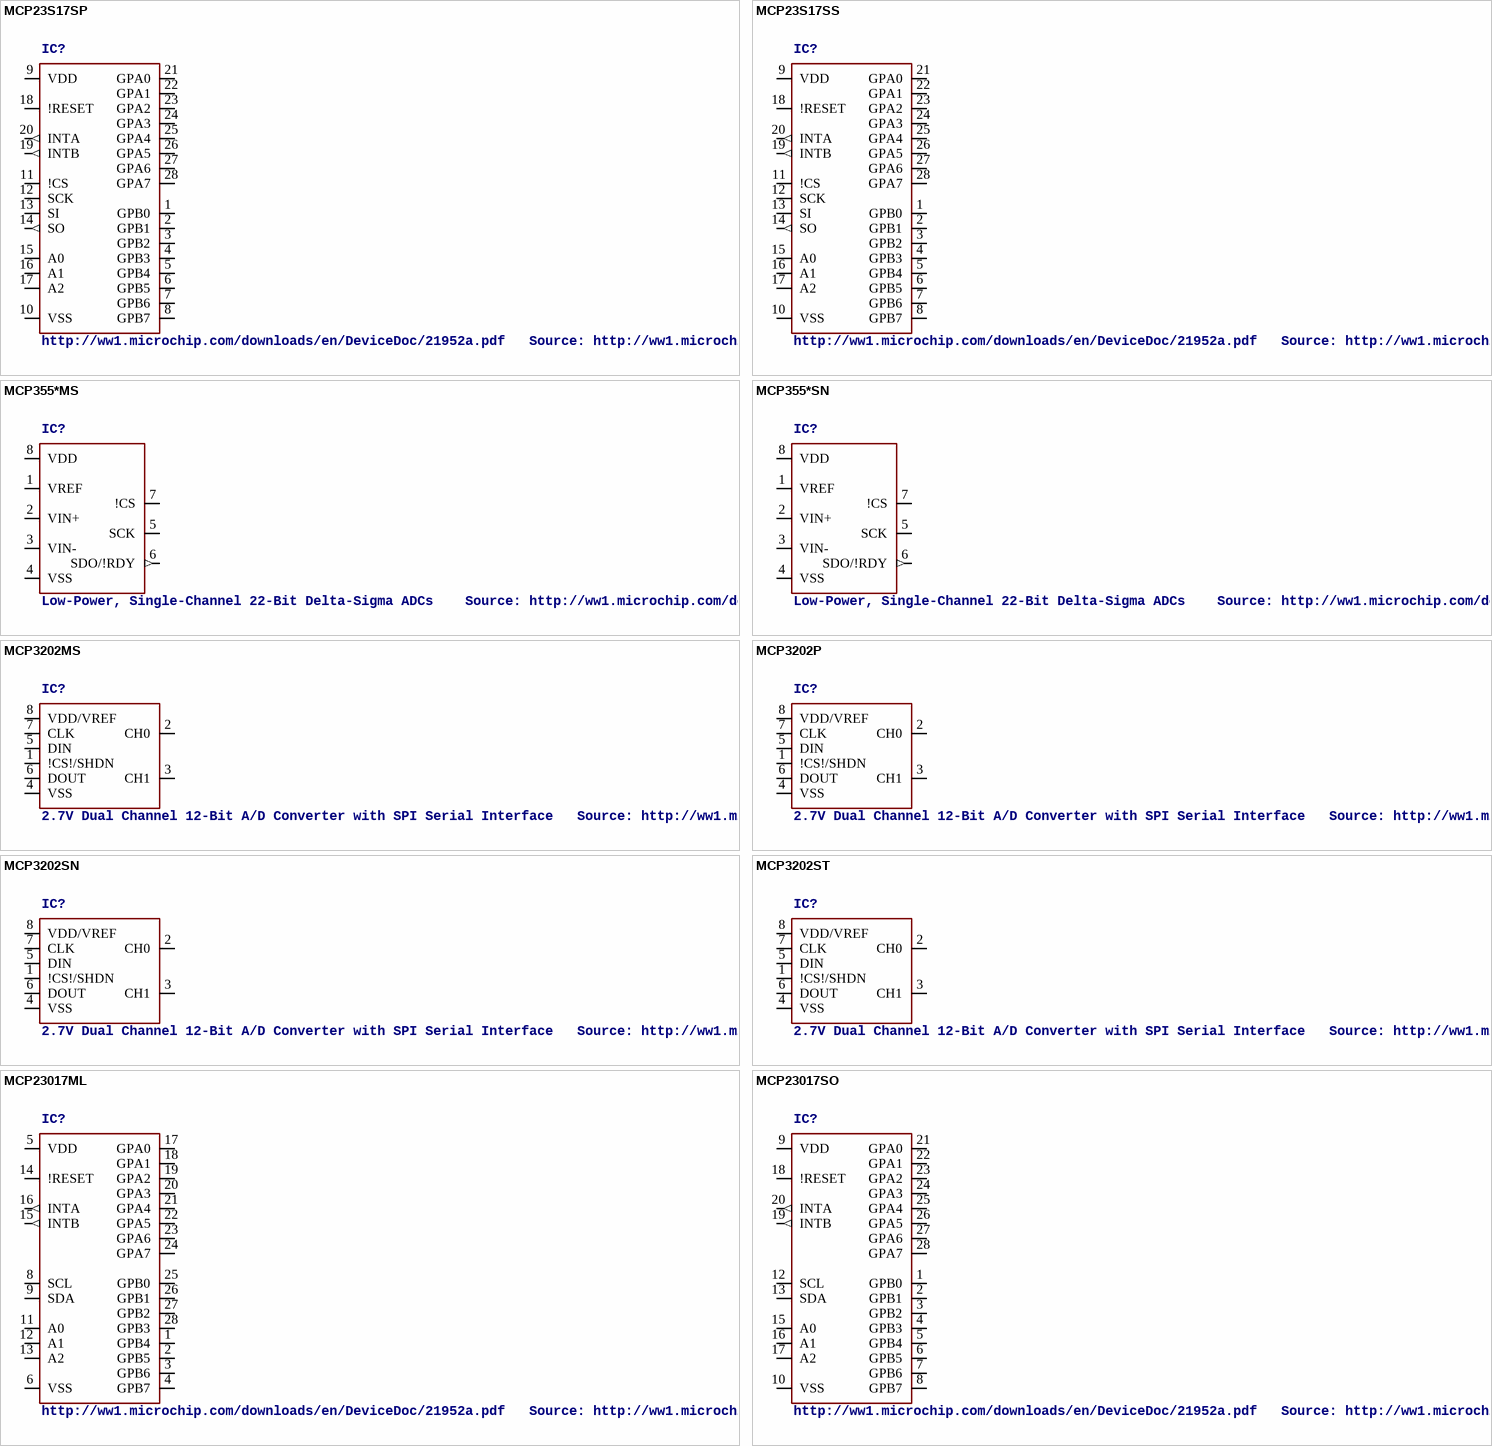
[diagram p8: symbols MCP23S17SP to MCP23017SO]

## MCP23S17SP
designator IC?, comment http://ww1.microchip.com/downloads/en/DeviceDoc/21952a.pdf   Source: http://ww1.microchip.com/downloads/en/DeviceDoc/21952a.pdf
MPN: MCP23S17-E/SP; MF: MICROCHIP; OC_FARNELL: 1292238; OC_NEWARK: 31K2951
footprint DIL28-3
pins: 1 GPB0, 2 GPB1, 3 GPB2, 4 GPB3, 5 GPB4, 6 GPB5, 7 GPB6, 8 GPB7, 9 VDD (power), 10 VSS (power), 11 !CS, 12 SCK, 13 SI, 14 SO (out), 15 A0, 16 A1, 17 A2, 18 !RESET, 19 INTB (out), 20 INTA (out), 21 GPA0, 22 GPA1, 23 GPA2, 24 GPA3, 25 GPA4, 26 GPA5, 27 GPA6, 28 GPA7

## MCP23S17SS
designator IC?, comment http://ww1.microchip.com/downloads/en/DeviceDoc/21952a.pdf   Source: http://ww1.microchip.com/downloads/en/DeviceDoc/21952a.pdf
MPN: MCP23S17-E/SS; MF: MICROCHIP; OC_FARNELL: 1467675; OC_NEWARK: 31K2952
footprint SSOP28
pins: 1 GPB0, 2 GPB1, 3 GPB2, 4 GPB3, 5 GPB4, 6 GPB5, 7 GPB6, 8 GPB7, 9 VDD (power), 10 VSS (power), 11 !CS, 12 SCK, 13 SI, 14 SO (out), 15 A0, 16 A1, 17 A2, 18 !RESET, 19 INTB (out), 20 INTA (out), 21 GPA0, 22 GPA1, 23 GPA2, 24 GPA3, 25 GPA4, 26 GPA5, 27 GPA6, 28 GPA7

## MCP355*MS
designator IC?, comment Low-Power, Single-Channel 22-Bit Delta-Sigma ADCs    Source: http://ww1.microchip.com/downloads/en/DeviceDoc/21950c.pdf
MPN: MCP3550-50E/MS; MPN: MCP3550-60E/MS; MPN: MCP3551-E/MS; MPN: MCP3553-E/MS; MF: MICROCHIP; OC_FARNELL: 1627198; OC_NEWARK: 69K0130; OC_FARNELL: 1840933; OC_NEWARK: 69K0134; OC_FARNELL: 1084624; OC_NEWARK: 22K1368; OC_FARNELL: 1439515; OC_NEWARK: 56K7003
footprint MSOP8
pins: 1 VREF, 2 VIN+, 3 VIN-, 4 VSS (power), 5 SCK, 6 SDO/!RDY (out), 7 !CS, 8 VDD (power)